# Altium integrated library Xilinx Spartan FPGA.IntLib: 465 symbols (part 2 of 3)
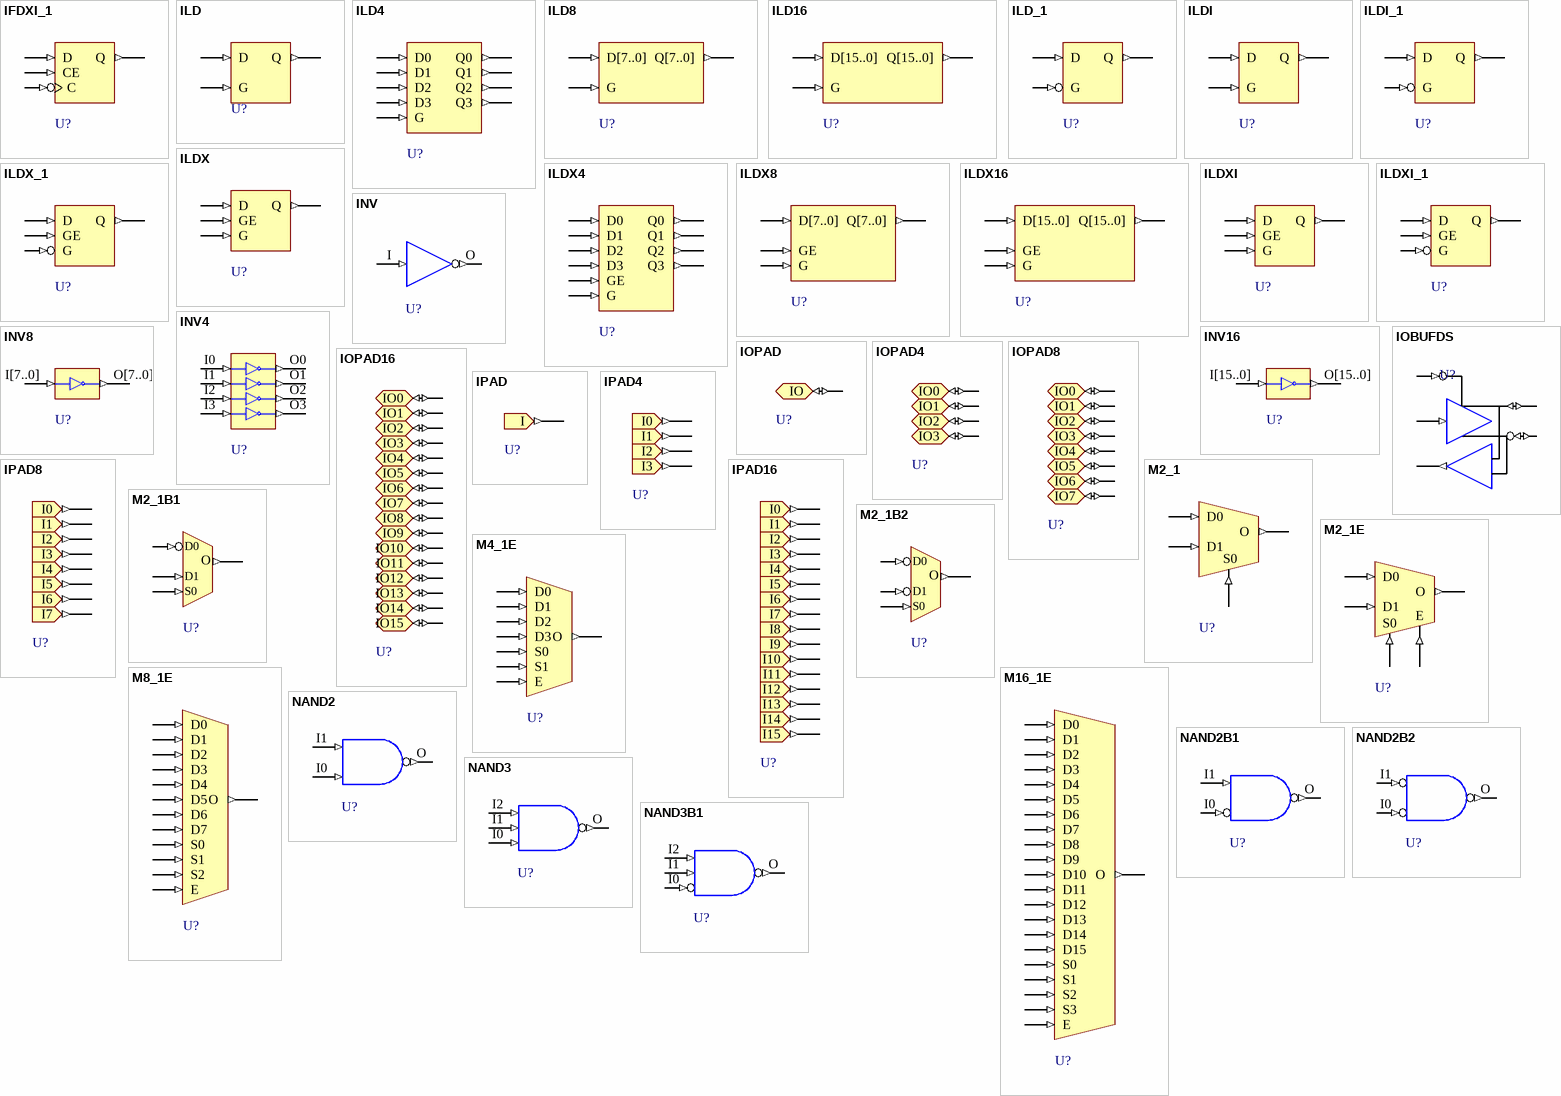
[diagram p12: symbols IFDXI_1 to NAND3B1]

## M16_1E
designator U?
16-to-1 Multiplexer with Enable; FPGAVendor: Xilinx; Published: 15-Sep-2003; Publisher: Altium Limited
pins: D0 (in), D1 (in), D2 (in), D3 (in), D4 (in), D5 (in), D6 (in), D7 (in), D8 (in), D9 (in), D10 (in), D11 (in), D12 (in), D13 (in), D14 (in), D15 (in), E (in), O (out), S0 (in), S1 (in), S2 (in), S3 (in)

## NAND2
designator U?
2-Input NAND Gate; FPGAVendor: Xilinx; Published: 15-Sep-2003; Publisher: Altium Limited
pins: I0 (in), I1 (in), O (out)

## NAND2B1
designator U?
2-Input NAND Gate with One Inverted Input; FPGAVendor: Xilinx; Published: 15-Sep-2003; Publisher: Altium Limited
pins: I0 (in), I1 (in), O (out)

## NAND2B2
designator U?
2-Input NAND Gate with Two Inverted Inputs; FPGAVendor: Xilinx; Published: 15-Sep-2003; Publisher: Altium Limited
pins: I0 (in), I1 (in), O (out)

## NAND3
designator U?
3-Input NAND Gate; FPGAVendor: Xilinx; Published: 15-Sep-2003; Publisher: Altium Limited
pins: I0 (in), I1 (in), I2 (in), O (out)

## NAND3B1
designator U?
3-Input NAND Gate with One Inverted Input; FPGAVendor: Xilinx; Published: 15-Sep-2003; Publisher: Altium Limited
pins: I0 (in), I1 (in), I2 (in), O (out)

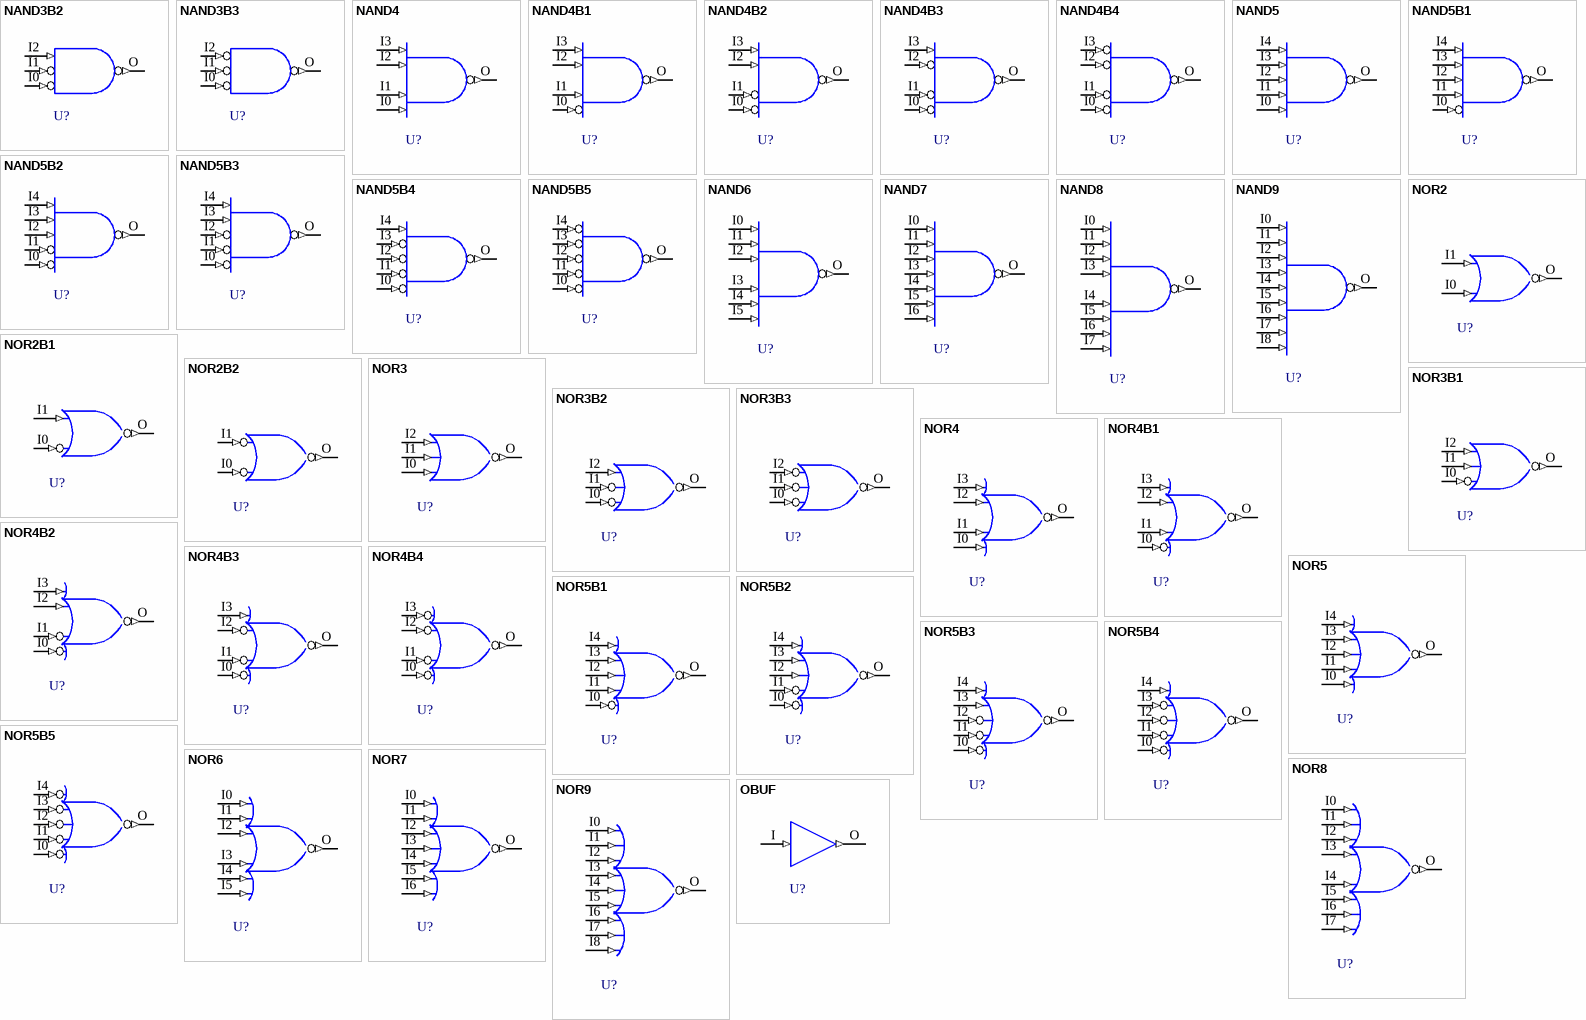
[diagram p6: symbols NAND3B2 to OBUF]

## NAND3B2
designator U?
3-Input NAND Gate with Two Inverted Inputs; FPGAVendor: Xilinx; Published: 15-Sep-2003; Publisher: Altium Limited
pins: I0 (in), I1 (in), I2 (in), O (out)

## NAND3B3
designator U?
3-Input NAND Gate with Three Inverted Inputs; FPGAVendor: Xilinx; Published: 15-Sep-2003; Publisher: Altium Limited
pins: I0 (in), I1 (in), I2 (in), O (out)

## NAND4
designator U?
4-Input NAND Gate; FPGAVendor: Xilinx; Published: 15-Sep-2003; Publisher: Altium Limited
pins: I0 (in), I1 (in), I2 (in), I3 (in), O (out)

## NAND4B1
designator U?
4-Input NAND Gate with One Inverted Input; FPGAVendor: Xilinx; Published: 15-Sep-2003; Publisher: Altium Limited
pins: I0 (in), I1 (in), I2 (in), I3 (in), O (out)

## NAND4B2
designator U?
4-Input NAND Gate with Two Inverted Inputs; FPGAVendor: Xilinx; Published: 15-Sep-2003; Publisher: Altium Limited
pins: I0 (in), I1 (in), I2 (in), I3 (in), O (out)

## NAND4B3
designator U?
4-Input NAND Gate with Three Inverted Inputs; FPGAVendor: Xilinx; Published: 15-Sep-2003; Publisher: Altium Limited
pins: I0 (in), I1 (in), I2 (in), I3 (in), O (out)

## NAND4B4
designator U?
4-Input NAND Gate with Four Inverted Inputs; FPGAVendor: Xilinx; Published: 15-Sep-2003; Publisher: Altium Limited
pins: I0 (in), I1 (in), I2 (in), I3 (in), O (out)

## NAND5
designator U?
5-Input NAND Gate; FPGAVendor: Xilinx; Published: 15-Sep-2003; Publisher: Altium Limited
pins: I0 (in), I1 (in), I2 (in), I3 (in), I4 (in), O (out)

## NAND5B1
designator U?
5-Input NAND Gate with One Inverted Input; FPGAVendor: Xilinx; Published: 15-Sep-2003; Publisher: Altium Limited
pins: I0 (in), I1 (in), I2 (in), I3 (in), I4 (in), O (out)

## NAND5B2
designator U?
5-Input NAND Gate with Two Inverted Inputs; FPGAVendor: Xilinx; Published: 15-Sep-2003; Publisher: Altium Limited
pins: I0 (in), I1 (in), I2 (in), I3 (in), I4 (in), O (out)

## NAND5B3
designator U?
5-Input NAND Gate with Three Inverted Inputs; FPGAVendor: Xilinx; Published: 15-Sep-2003; Publisher: Altium Limited
pins: I0 (in), I1 (in), I2 (in), I3 (in), I4 (in), O (out)

## NAND5B4
designator U?
5-Input NAND Gate with Four Inverted Inputs; FPGAVendor: Xilinx; Published: 15-Sep-2003; Publisher: Altium Limited
pins: I0 (in), I1 (in), I2 (in), I3 (in), I4 (in), O (out)

## NAND5B5
designator U?
5-Input NAND Gate with Five Inverted Inputs; FPGAVendor: Xilinx; Published: 15-Sep-2003; Publisher: Altium Limited
pins: I0 (in), I1 (in), I2 (in), I3 (in), I4 (in), O (out)

## NAND6
designator U?
6-Input NAND Gate; FPGAVendor: Xilinx; Published: 15-Sep-2003; Publisher: Altium Limited
pins: I0 (in), I1 (in), I2 (in), I3 (in), I4 (in), I5 (in), O (out)

## NAND7
designator U?
7-Input NAND Gate; FPGAVendor: Xilinx; Published: 15-Sep-2003; Publisher: Altium Limited
pins: I0 (in), I1 (in), I2 (in), I3 (in), I4 (in), I5 (in), I6 (in), O (out)

## NAND8
designator U?
8-Input NAND Gate; FPGAVendor: Xilinx; Published: 15-Sep-2003; Publisher: Altium Limited
pins: I0 (in), I1 (in), I2 (in), I3 (in), I4 (in), I5 (in), I6 (in), I7 (in), O (out)

## NAND9
designator U?
9-Input NAND Gate; FPGAVendor: Xilinx; Published: 15-Sep-2003; Publisher: Altium Limited
pins: I0 (in), I1 (in), I2 (in), I3 (in), I4 (in), I5 (in), I6 (in), I7 (in), I8 (in), O (out)

## NOR2
designator U?
2-Input NOR Gate; FPGAVendor: Xilinx; Published: 15-Sep-2003; Publisher: Altium Limited
pins: I0 (in), I1 (in), O (out)

## NOR2B1
designator U?
2-Input NOR Gate with One Inverted Input; FPGAVendor: Xilinx; Published: 15-Sep-2003; Publisher: Altium Limited
pins: I0 (in), I1 (in), O (out)

## NOR2B2
designator U?
2-Input NOR Gate with Two Inverted Inputs; FPGAVendor: Xilinx; Published: 15-Sep-2003; Publisher: Altium Limited
pins: I0 (in), I1 (in), O (out)

## NOR3
designator U?
3-Input NOR Gate; FPGAVendor: Xilinx; Published: 15-Sep-2003; Publisher: Altium Limited
pins: I0 (in), I1 (in), I2 (in), O (out)

## NOR3B1
designator U?
3-Input NOR Gate with One Inverted Input; FPGAVendor: Xilinx; Published: 15-Sep-2003; Publisher: Altium Limited
pins: I0 (in), I1 (in), I2 (in), O (out)

## NOR3B2
designator U?
3-Input NOR Gate with Two Inverted Inputs; FPGAVendor: Xilinx; Published: 15-Sep-2003; Publisher: Altium Limited
pins: I0 (in), I1 (in), I2 (in), O (out)

## NOR3B3
designator U?
3-Input NOR Gate with Three Inverted Inputs; FPGAVendor: Xilinx; Published: 15-Sep-2003; Publisher: Altium Limited
pins: I0 (in), I1 (in), I2 (in), O (out)

## NOR4
designator U?
4-Input NOR Gate; FPGAVendor: Xilinx; Published: 15-Sep-2003; Publisher: Altium Limited
pins: I0 (in), I1 (in), I2 (in), I3 (in), O (out)

## NOR4B1
designator U?
4-Input NOR Gate with One Inverted Input; FPGAVendor: Xilinx; Published: 15-Sep-2003; Publisher: Altium Limited
pins: I0 (in), I1 (in), I2 (in), I3 (in), O (out)

## NOR4B2
designator U?
4-Input NOR Gate with Two Inverted Inputs; FPGAVendor: Xilinx; Published: 15-Sep-2003; Publisher: Altium Limited
pins: I0 (in), I1 (in), I2 (in), I3 (in), O (out)

## NOR4B3
designator U?
4-Input NOR Gate with Three Inverted Inputs; FPGAVendor: Xilinx; Published: 15-Sep-2003; Publisher: Altium Limited
pins: I0 (in), I1 (in), I2 (in), I3 (in), O (out)

## NOR4B4
designator U?
4-Input NOR Gate with Four Inverted Inputs; FPGAVendor: Xilinx; Published: 15-Sep-2003; Publisher: Altium Limited
pins: I0 (in), I1 (in), I2 (in), I3 (in), O (out)

## NOR5
designator U?
5-Input NOR Gate; FPGAVendor: Xilinx; Published: 15-Sep-2003; Publisher: Altium Limited
pins: I0 (in), I1 (in), I2 (in), I3 (in), I4 (in), O (out)

## NOR5B1
designator U?
5-Input NOR Gate with One Inverted Input; FPGAVendor: Xilinx; Published: 15-Sep-2003; Publisher: Altium Limited
pins: I0 (in), I1 (in), I2 (in), I3 (in), I4 (in), O (out)

## NOR5B2
designator U?
5-Input NOR Gate with Two Inverted Inputs; FPGAVendor: Xilinx; Published: 15-Sep-2003; Publisher: Altium Limited
pins: I0 (in), I1 (in), I2 (in), I3 (in), I4 (in), O (out)

## NOR5B3
designator U?
5-Input NOR Gate with Three Inverted Inputs; FPGAVendor: Xilinx; Published: 15-Sep-2003; Publisher: Altium Limited
pins: I0 (in), I1 (in), I2 (in), I3 (in), I4 (in), O (out)

## NOR5B4
designator U?
5-Input NOR Gate with Four Inverted Inputs; FPGAVendor: Xilinx; Published: 15-Sep-2003; Publisher: Altium Limited
pins: I0 (in), I1 (in), I2 (in), I3 (in), I4 (in), O (out)

## NOR5B5
designator U?
5-Input NOR Gate with Five Inverted Inputs; FPGAVendor: Xilinx; Published: 15-Sep-2003; Publisher: Altium Limited
pins: I0 (in), I1 (in), I2 (in), I3 (in), I4 (in), O (out)

## NOR6
designator U?
6-Input NOR Gate; FPGAVendor: Xilinx; Published: 15-Sep-2003; Publisher: Altium Limited
pins: I0 (in), I1 (in), I2 (in), I3 (in), I4 (in), I5 (in), O (out)

## NOR7
designator U?
7-Input NOR Gate; FPGAVendor: Xilinx; Published: 15-Sep-2003; Publisher: Altium Limited
pins: I0 (in), I1 (in), I2 (in), I3 (in), I4 (in), I5 (in), I6 (in), O (out)

## NOR8
designator U?
8-Input NOR Gate; FPGAVendor: Xilinx; Published: 15-Sep-2003; Publisher: Altium Limited
pins: I0 (in), I1 (in), I2 (in), I3 (in), I4 (in), I5 (in), I6 (in), I7 (in), O (out)

## NOR9
designator U?
9-Input NOR Gate; FPGAVendor: Xilinx; Published: 15-Sep-2003; Publisher: Altium Limited
pins: I0 (in), I1 (in), I2 (in), I3 (in), I4 (in), I5 (in), I6 (in), I7 (in), I8 (in), O (out)

## OBUF
designator U?
Single-Output Buffer (using the LVTTL standard); FPGAVendor: Xilinx; Published: 15-Sep-2003; Publisher: Altium Limited
pins: I (in), O (out)

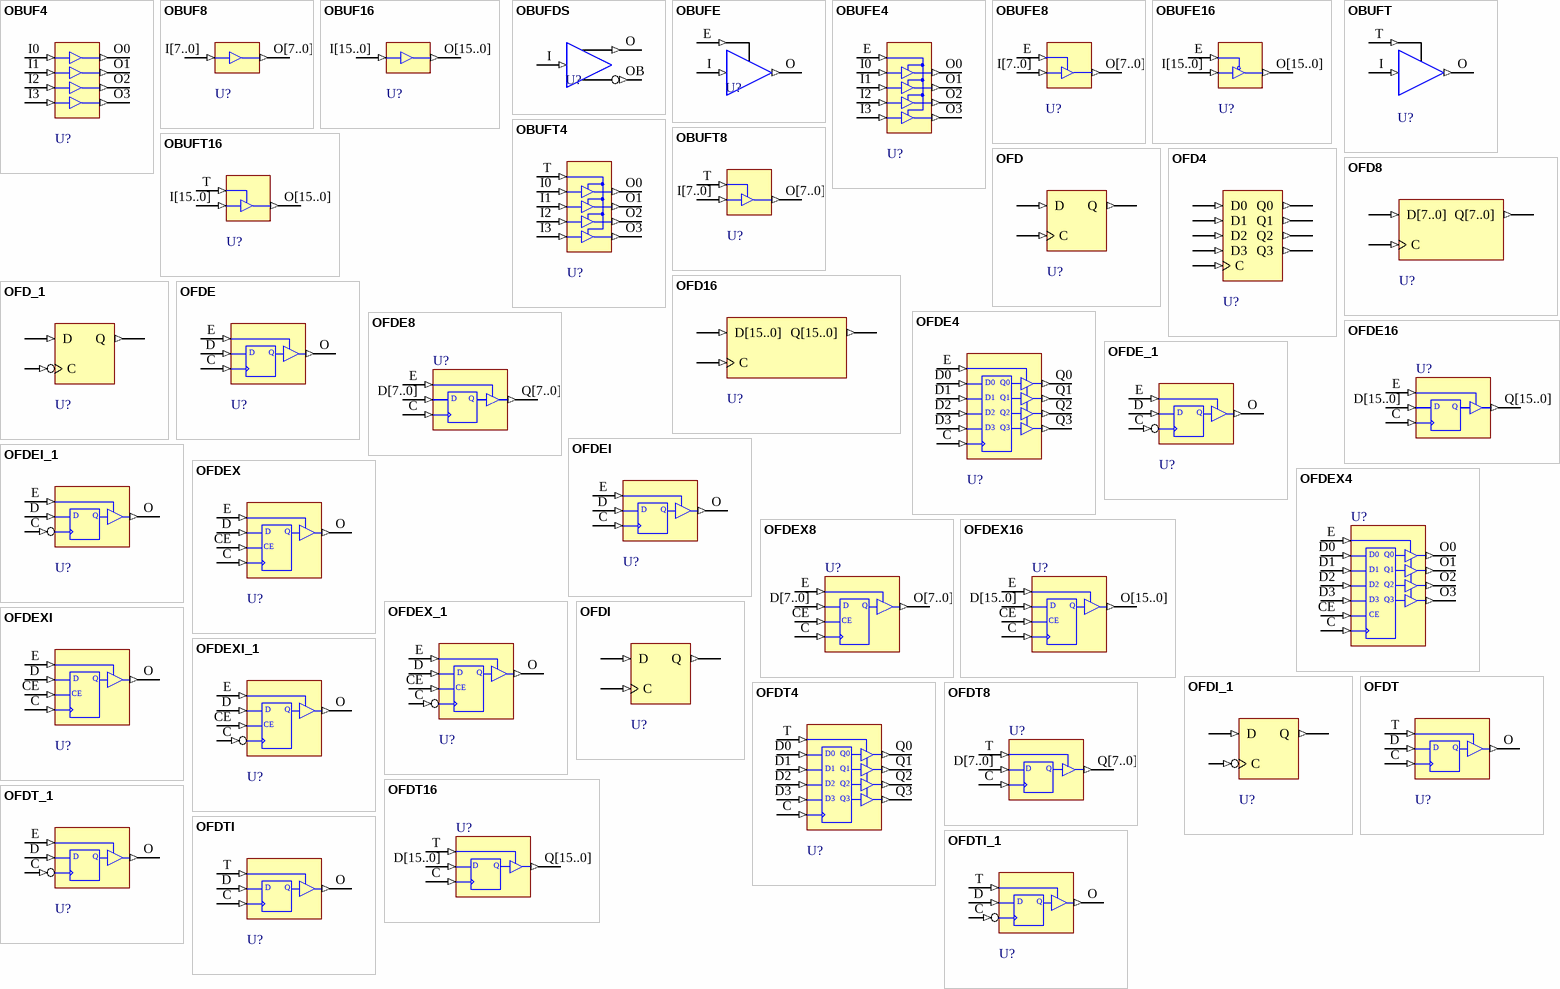
[diagram p7: symbols OBUF4 to OFDTI_1]

## OBUF4
designator U?
Multiple-Output Buffers (using the LVTTL standard); FPGAVendor: Xilinx; Published: 15-Sep-2003; Publisher: Altium Limited
pins: I0 (in), I1 (in), I2 (in), I3 (in), O0 (out), O1 (out), O2 (out), O3 (out)

## OBUF8
designator U?
Multiple-Output Buffers (using the LVTTL standard); FPGAVendor: Xilinx; Published: 15-Sep-2003; Publisher: Altium Limited
pins: I[7..0] (in), O[7..0] (out)

## OBUF16
designator U?
Multiple-Output Buffers (using the LVTTL standard); FPGAVendor: Xilinx; Published: 15-Sep-2003; Publisher: Altium Limited
pins: I[15..0] (in), O[15..0] (out)

## OBUFDS
designator U?
Differential Signaling Output Buffer with Selectable I/O Interface; FPGAVendor: Xilinx; Published: 20-May-2005; Publisher: Altium Limited; HelpURL: http://toolbox.xilinx.com/docsan/xilinx7/books/docs/s3esc/s3esc.pdf
pins: I (in), O (out), OB (out)

## OBUFE
designator U?
3-State Output Buffer with Active-High Output Enable; FPGAVendor: Xilinx; Published: 15-Sep-2003; Publisher: Altium Limited
pins: E (in), I (in), O (out)

## OBUFE4
designator U?
3-State Output Buffers with Active-High Output Enable; FPGAVendor: Xilinx; Published: 15-Sep-2003; Publisher: Altium Limited
pins: E (in), I0 (in), I1 (in), I2 (in), I3 (in), O0 (out), O1 (out), O2 (out), O3 (out)

## OBUFE8
designator U?
3-State Output Buffers with Active-High Output Enable; FPGAVendor: Xilinx; Published: 15-Sep-2003; Publisher: Altium Limited
pins: E (in), I[7..0] (in), O[7..0] (out)

## OBUFE16
designator U?
3-State Output Buffers with Active-High Output Enable; FPGAVendor: Xilinx; Published: 15-Sep-2003; Publisher: Altium Limited
pins: E (in), I[15..0] (in), O[15..0] (out)

## OBUFT
designator U?
Single 3-State Output Buffer with Active-Low Output Enable; FPGAVendor: Xilinx; Published: 15-Sep-2003; Publisher: Altium Limited
pins: I (in), O (out), T (in)

## OBUFT4
designator U?
Multiple 3-State Output Buffers with Active-Low Output Enable; FPGAVendor: Xilinx; Published: 15-Sep-2003; Publisher: Altium Limited
pins: I0 (in), I1 (in), I2 (in), I3 (in), O0 (out), O1 (out), O2 (out), O3 (out), T (in)

## OBUFT8
designator U?
Multiple 3-State Output Buffers with Active-Low Output Enable; FPGAVendor: Xilinx; Published: 15-Sep-2003; Publisher: Altium Limited
pins: I[7..0] (in), O[7..0] (out), T (in)

## OBUFT16
designator U?
Multiple 3-State Output Buffers with Active-Low Output Enable; FPGAVendor: Xilinx; Published: 15-Sep-2003; Publisher: Altium Limited
pins: I[15..0] (in), O[15..0] (out), T (in)

## OFD
designator U?
Single-Output D Flip-Flop; FPGAVendor: Xilinx; Published: 15-Sep-2003; Publisher: Altium Limited
pins: C (in), D (in), Q (out)

## OFD4
designator U?
Multiple-Output D Flip-Flop; FPGAVendor: Xilinx; Published: 15-Sep-2003; Publisher: Altium Limited
pins: C (in), D0 (in), D1 (in), D2 (in), D3 (in), Q0 (out), Q1 (out), Q2 (out), Q3 (out)

## OFD8
designator U?
Multiple-Output D Flip-Flop; FPGAVendor: Xilinx; Published: 15-Sep-2003; Publisher: Altium Limited
pins: C (in), D[7..0] (in), Q[7..0] (out)

## OFD16
designator U?
Multiple-Output D Flip-Flop; FPGAVendor: Xilinx; Published: 15-Sep-2003; Publisher: Altium Limited
pins: C (in), D[15..0] (in), Q[15..0] (out)

## OFD_1
designator U?
Output D Flip-Flop with Inverted Clock; FPGAVendor: Xilinx; Published: 15-Sep-2003; Publisher: Altium Limited
pins: C (in), D (in), Q (out)

## OFDE
designator U?
D Flip-Flop with Active-High Enable Output Buffer; FPGAVendor: Xilinx; Published: 15-Sep-2003; Publisher: Altium Limited
pins: C (in), D (in), E (in), O (out)
text: Q

## OFDE4
designator U?
D Flip-Flops with Active-High Enable Output Buffers; FPGAVendor: Xilinx; Published: 15-Sep-2003; Publisher: Altium Limited
pins: C (in), D0 (in), D1 (in), D2 (in), D3 (in), E (in), Q0 (out), Q1 (out), Q2 (out), Q3 (out)

## OFDE8
designator U?
D Flip-Flops with Active-High Enable Output Buffers; FPGAVendor: Xilinx; Published: 15-Sep-2003; Publisher: Altium Limited
pins: C (in), D[7..0] (in), E (in), Q[7..0] (out)
text: D; Q

## OFDE16
designator U?
D Flip-Flops with Active-High Enable Output Buffers; FPGAVendor: Xilinx; Published: 15-Sep-2003; Publisher: Altium Limited
pins: C (in), D[15..0] (in), E (in), Q[15..0] (out)
text: D; Q

## OFDE_1
designator U?
D Flip-Flop with Active-High Enable Output Buffer and Inverted Clock; FPGAVendor: Xilinx; Published: 15-Sep-2003; Publisher: Altium Limited
pins: C (in), D (in), E (in), O (out)
text: Q

## OFDEI
designator U?
D Flip-Flop with Active-High Enable Output Buffer (Asynchronous Preset); FPGAVendor: Xilinx; Published: 15-Sep-2003; Publisher: Altium Limited
pins: C (in), D (in), E (in), O (out)
text: Q

## OFDEI_1
designator U?
D Flip-Flop with Active-High Enable Output Buffer and Inverted Clock (Asynchronous Preset); FPGAVendor: Xilinx; Published: 15-Sep-2003; Publisher: Altium Limited
pins: C (in), D (in), E (in), O (out)
text: Q

## OFDEX
designator U?
D Flip-Flop with Active-High Enable Output Buffers and Clock Enable; FPGAVendor: Xilinx; Published: 15-Sep-2003; Publisher: Altium Limited
pins: C (in), CE (in), D (in), E (in), O (out)
text: Q

## OFDEX4
designator U?
D Flip-Flops with Active-High Enable Output Buffers and Clock Enable; FPGAVendor: Xilinx; Published: 15-Sep-2003; Publisher: Altium Limited
pins: C (in), CE (in), D0 (in), D1 (in), D2 (in), D3 (in), E (in), O0 (out), O1 (out), O2 (out), O3 (out)
text: Q0; Q1; Q2; Q3

## OFDEX8
designator U?
D Flip-Flops with Active-High Enable Output Buffers and Clock Enable; FPGAVendor: Xilinx; Published: 15-Sep-2003; Publisher: Altium Limited
pins: C (in), CE (in), D[7..0] (in), E (in), O[7..0] (out)
text: D; Q

## OFDEX16
designator U?
D Flip-Flops with Active-High Enable Output Buffers and Clock Enable; FPGAVendor: Xilinx; Published: 15-Sep-2003; Publisher: Altium Limited
pins: C (in), CE (in), D[15..0] (in), E (in), O[15..0] (out)
text: D; Q

## OFDEX_1
designator U?
D Flip-Flop with Active-High Enable Output Buffer, Inverted Clock, and Clock Enable; FPGAVendor: Xilinx; Published: 15-Sep-2003; Publisher: Altium Limited
pins: C (in), CE (in), D (in), E (in), O (out)
text: Q

## OFDEXI
designator U?
D Flip-Flop with Active-High Enable Output Buffer and Clock Enable (Asynchronous Preset); FPGAVendor: Xilinx; Published: 15-Sep-2003; Publisher: Altium Limited
pins: C (in), CE (in), D (in), E (in), O (out)
text: Q

## OFDEXI_1
designator U?
D Flip-Flop with Active-High Enable Output Buffer, Inverted Clock and Clock Enable (Asynchronous Preset); FPGAVendor: Xilinx; Published: 15-Sep-2003; Publisher: Altium Limited
pins: C (in), CE (in), D (in), E (in), O (out)
text: Q

## OFDI
designator U?
Output D Flip-Flop (Asynchronous Preset); FPGAVendor: Xilinx; Published: 15-Sep-2003; Publisher: Altium Limited
pins: C (in), D (in), Q (out)

## OFDI_1
designator U?
Output D Flip-Flop with Inverted Clock (Asynchronous Preset); FPGAVendor: Xilinx; Published: 15-Sep-2003; Publisher: Altium Limited
pins: C (in), D (in), Q (out)

## OFDT
designator U?
Single D Flip-Flop with Active-Low 3-State Output Enable Buffer; FPGAVendor: Xilinx; Published: 15-Sep-2003; Publisher: Altium Limited
pins: C (in), D (in), O (out), T (in)
text: Q

## OFDT4
designator U?
Multiple D Flip-Flops with Active-Low 3-State Output Enable Buffers; FPGAVendor: Xilinx; Published: 15-Sep-2003; Publisher: Altium Limited
pins: C (in), D0 (in), D1 (in), D2 (in), D3 (in), Q0 (out), Q1 (out), Q2 (out), Q3 (out), T (in)

## OFDT8
designator U?
Multiple D Flip-Flops with Active-Low 3-State Output Enable Buffers; FPGAVendor: Xilinx; Published: 15-Sep-2003; Publisher: Altium Limited
pins: C (in), D[7..0] (in), Q[7..0] (out), T (in)
text: D; Q

## OFDT16
designator U?
Multiple D Flip-Flops with Active-Low 3-State Output Enable Buffers; FPGAVendor: Xilinx; Published: 15-Sep-2003; Publisher: Altium Limited
pins: C (in), D[15..0] (in), Q[15..0] (out), T (in)
text: D; Q

## OFDT_1
designator U?
D Flip-Flop with Active-Low 3-State Output Buffer and Inverted Clock; FPGAVendor: Xilinx; Published: 15-Sep-2003; Publisher: Altium Limited
pins: C (in), D (in), E (in), O (out)
text: Q

## OFDTI
designator U?
D Flip-Flop with Active-Low 3-State Output Buffer (Asynchronous Preset); FPGAVendor: Xilinx; Published: 15-Sep-2003; Publisher: Altium Limited
pins: C (in), D (in), O (out), T (in)
text: Q

## OFDTI_1
designator U?
D Flip-Flop with Active-Low 3-State Output Buffer and Inverted Clock (Asynchronous Preset); FPGAVendor: Xilinx; Published: 15-Sep-2003; Publisher: Altium Limited
pins: C (in), D (in), O (out), T (in)
text: Q

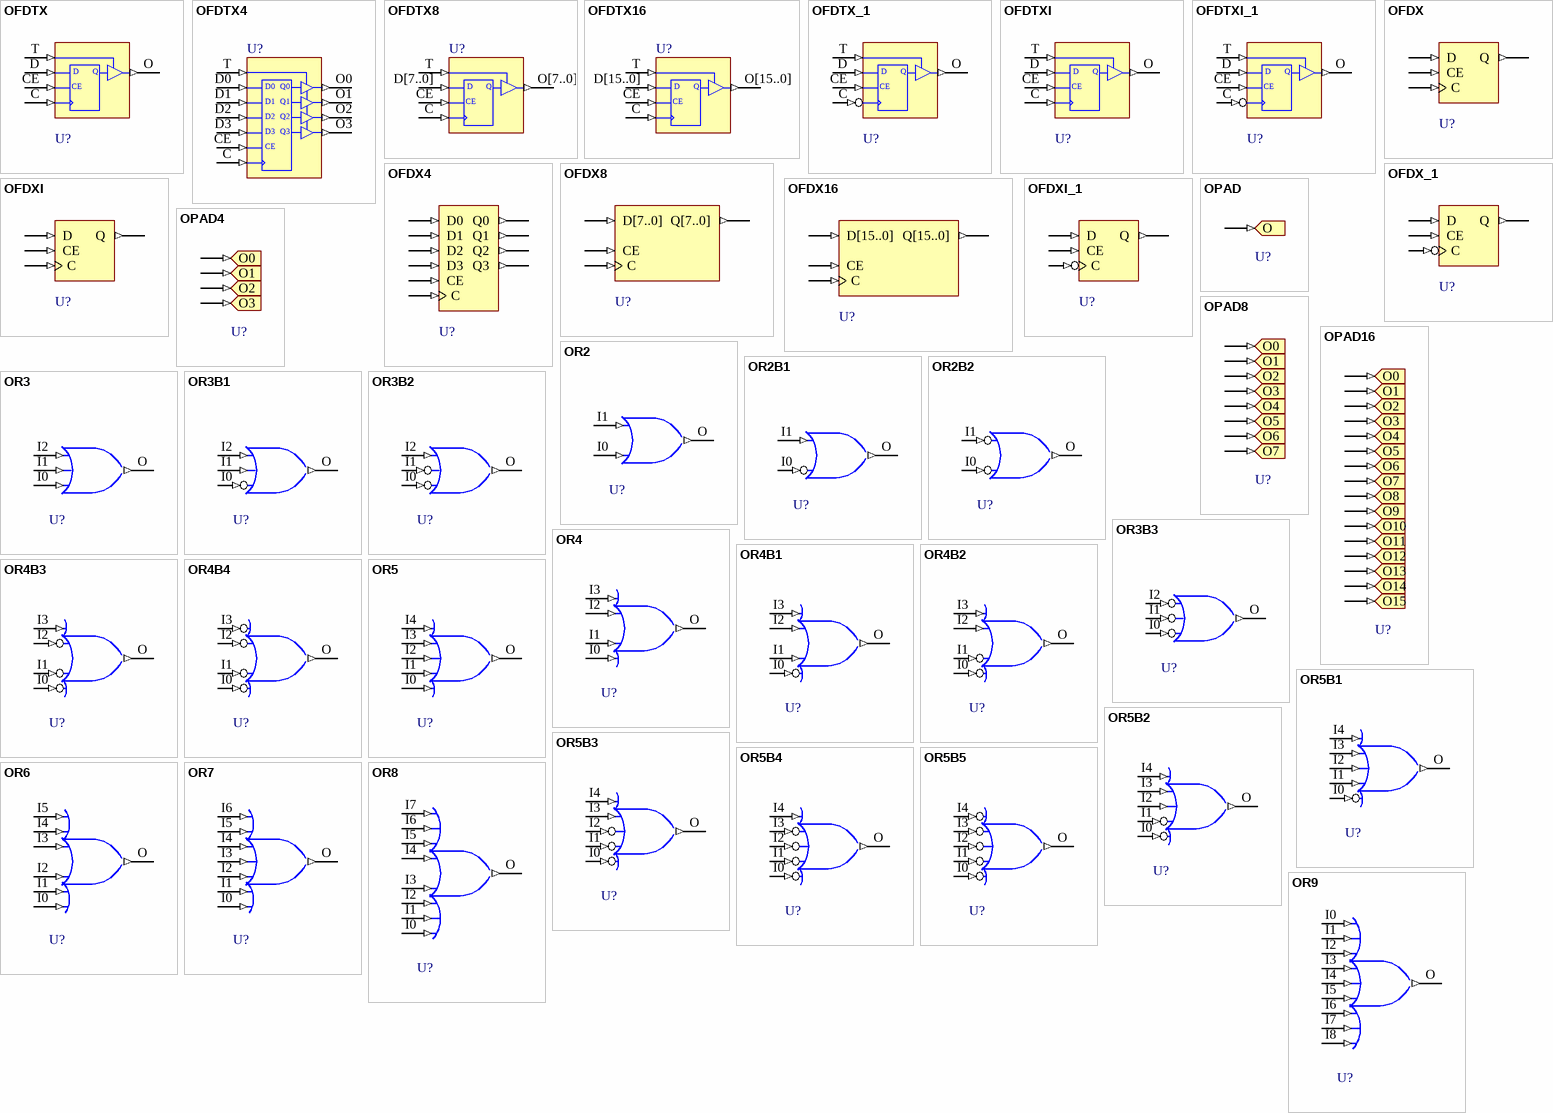
[diagram p8: symbols OFDTX to OR9]

## OFDTX
designator U?
Single D Flip-Flop with Active-Low 3-State Output Buffer and Clock Enable; FPGAVendor: Xilinx; Published: 15-Sep-2003; Publisher: Altium Limited
pins: C (in), CE (in), D (in), O (out), T (in)
text: Q

## OFDTX4
designator U?
Multiple D Flip-Flops with Active-Low 3-State Output Buffers and Clock Enable; FPGAVendor: Xilinx; Published: 15-Sep-2003; Publisher: Altium Limited
pins: C (in), CE (in), D0 (in), D1 (in), D2 (in), D3 (in), O0 (out), O1 (out), O2 (out), O3 (out), T (in)
text: Q0; Q1; Q2; Q3

## OFDTX8
designator U?
Multiple D Flip-Flops with Active-Low 3-State Output Buffers and Clock Enable; FPGAVendor: Xilinx; Published: 15-Sep-2003; Publisher: Altium Limited
pins: C (in), CE (in), D[7..0] (in), O[7..0] (out), T (in)
text: D; Q

## OFDTX16
designator U?
Multiple D Flip-Flops with Active-Low 3-State Output Buffers and Clock Enable; FPGAVendor: Xilinx; Published: 15-Sep-2003; Publisher: Altium Limited
pins: C (in), CE (in), D[15..0] (in), O[15..0] (out), T (in)
text: D; Q

## OFDTX_1
designator U?
D Flip-Flop with Active-Low 3-State Output Buffer, Inverted Clock, and Clock Enable; FPGAVendor: Xilinx; Published: 15-Sep-2003; Publisher: Altium Limited
pins: C (in), CE (in), D (in), O (out), T (in)
text: Q

## OFDTXI
designator U?
D Flip-Flop with Active-Low 3-State Output Buffer and Clock Enable (Asynchronous Preset); FPGAVendor: Xilinx; Published: 15-Sep-2003; Publisher: Altium Limited
pins: C (in), CE (in), D (in), O (out), T (in)
text: Q

## OFDTXI_1
designator U?
D Flip-Flop with Active-Low 3-State Output Buffer, Inverted Clock, and Clock Enable (Asynchronous Preset); FPGAVendor: Xilinx; Published: 15-Sep-2003; Publisher: Altium Limited
pins: C (in), CE (in), D (in), O (out), T (in)
text: Q

## OFDX
designator U?
Single-Output D Flip-Flop with Clock Enable; FPGAVendor: Xilinx; Published: 15-Sep-2003; Publisher: Altium Limited
pins: C (in), CE (in), D (in), Q (out)

## OFDX4
designator U?
Multiple-Output D Flip-Flops with Clock Enable; FPGAVendor: Xilinx; Published: 15-Sep-2003; Publisher: Altium Limited
pins: C (in), CE (in), D0 (in), D1 (in), D2 (in), D3 (in), Q0 (out), Q1 (out), Q2 (out), Q3 (out)

## OFDX8
designator U?
Multiple-Output D Flip-Flops with Clock Enable; FPGAVendor: Xilinx; Published: 15-Sep-2003; Publisher: Altium Limited
pins: C (in), CE (in), D[7..0] (in), Q[7..0] (out)

## OFDX16
designator U?
Multiple-Output D Flip-Flops with Clock Enable; FPGAVendor: Xilinx; Published: 15-Sep-2003; Publisher: Altium Limited
pins: C (in), CE (in), D[15..0] (in), Q[15..0] (out)

## OFDX_1
designator U?
Output D Flip-Flop with Inverted Clock and Clock Enable; FPGAVendor: Xilinx; Published: 15-Sep-2003; Publisher: Altium Limited
pins: C (in), CE (in), D (in), Q (out)

## OFDXI
designator U?
Output D Flip-Flop with Clock Enable (Asynchronous Preset); FPGAVendor: Xilinx; Published: 15-Sep-2003; Publisher: Altium Limited
pins: C (in), CE (in), D (in), Q (out)

## OFDXI_1
designator U?
Output D Flip-Flop with Inverted Clock and Clock Enable (Asynchronous Preset); FPGAVendor: Xilinx; Published: 15-Sep-2003; Publisher: Altium Limited
pins: C (in), CE (in), D (in), Q (out)

## OPAD
designator U?
Single-Output Pad; FPGAVendor: Xilinx; Published: 15-Sep-2003; Publisher: Altium Limited
pins: O (in)

## OPAD4
designator U?
Multiple-Output Pads; FPGAVendor: Xilinx; Published: 15-Sep-2003; Publisher: Altium Limited
pins: O0 (in), O1 (in), O2 (in), O3 (in)

## OPAD8
designator U?
Multiple-Output Pads; FPGAVendor: Xilinx; Published: 15-Sep-2003; Publisher: Altium Limited
pins: O0 (in), O1 (in), O2 (in), O3 (in), O4 (in), O5 (in), O6 (in), O7 (in)

## OPAD16
designator U?
Multiple-Output Pads; FPGAVendor: Xilinx; Published: 15-Sep-2003; Publisher: Altium Limited
pins: O0 (in), O1 (in), O2 (in), O3 (in), O4 (in), O5 (in), O6 (in), O7 (in), O8 (in), O9 (in), O10 (in), O11 (in), O12 (in), O13 (in), O14 (in), O15 (in)

## OR2
designator U?
2-Input OR Gate; FPGAVendor: Xilinx; Published: 15-Sep-2003; Publisher: Altium Limited
pins: I0 (in), I1 (in), O (out)

## OR2B1
designator U?
2-Input OR Gate with One Inverted Input; FPGAVendor: Xilinx; Published: 15-Sep-2003; Publisher: Altium Limited
pins: I0 (in), I1 (in), O (out)

## OR2B2
designator U?
2-Input OR Gate with Two Inverted Inputs; FPGAVendor: Xilinx; Published: 15-Sep-2003; Publisher: Altium Limited
pins: I0 (in), I1 (in), O (out)

## OR3
designator U?
3-Input OR Gate; FPGAVendor: Xilinx; Published: 15-Sep-2003; Publisher: Altium Limited
pins: I0 (in), I1 (in), I2 (in), O (out)

## OR3B1
designator U?
3-Input OR Gate with One Inverted Input; FPGAVendor: Xilinx; Published: 15-Sep-2003; Publisher: Altium Limited
pins: I0 (in), I1 (in), I2 (in), O (out)

## OR3B2
designator U?
3-Input OR Gate with Two Inverted Inputs; FPGAVendor: Xilinx; Published: 15-Sep-2003; Publisher: Altium Limited
pins: I0 (in), I1 (in), I2 (in), O (out)

## OR3B3
designator U?
3-Input OR Gate with Three Inverted Inputs; FPGAVendor: Xilinx; Published: 15-Sep-2003; Publisher: Altium Limited
pins: I0 (in), I1 (in), I2 (in), O (out)

## OR4
designator U?
4-Input OR Gate; FPGAVendor: Xilinx; Published: 15-Sep-2003; Publisher: Altium Limited
pins: I0 (in), I1 (in), I2 (in), I3 (in), O (out)

## OR4B1
designator U?
4-Input OR Gate with One Inverted Input; FPGAVendor: Xilinx; Published: 15-Sep-2003; Publisher: Altium Limited
pins: I0 (in), I1 (in), I2 (in), I3 (in), O (out)

## OR4B2
designator U?
4-Input OR Gate with Two Inverted Inputs; FPGAVendor: Xilinx; Published: 15-Sep-2003; Publisher: Altium Limited
pins: I0 (in), I1 (in), I2 (in), I3 (in), O (out)

## OR4B3
designator U?
4-Input OR Gate with Three Inverted Inputs; FPGAVendor: Xilinx; Published: 15-Sep-2003; Publisher: Altium Limited
pins: I0 (in), I1 (in), I2 (in), I3 (in), O (out)

## OR4B4
designator U?
4-Input OR Gate with Four Inverted Inputs; FPGAVendor: Xilinx; Published: 15-Sep-2003; Publisher: Altium Limited
pins: I0 (in), I1 (in), I2 (in), I3 (in), O (out)

## OR5
designator U?
5-Input OR Gate; FPGAVendor: Xilinx; Published: 15-Sep-2003; Publisher: Altium Limited
pins: I0 (in), I1 (in), I2 (in), I3 (in), I4 (in), O (out)

## OR5B1
designator U?
5-Input OR Gate with One Inverted Input; FPGAVendor: Xilinx; Published: 15-Sep-2003; Publisher: Altium Limited
pins: I0 (in), I1 (in), I2 (in), I3 (in), I4 (in), O (out)

## OR5B2
designator U?
5-Input OR Gate with Two Inverted Inputs; FPGAVendor: Xilinx; Published: 15-Sep-2003; Publisher: Altium Limited
pins: I0 (in), I1 (in), I2 (in), I3 (in), I4 (in), O (out)

## OR5B3
designator U?
5-Input OR Gate with Three Inverted Inputs; FPGAVendor: Xilinx; Published: 15-Sep-2003; Publisher: Altium Limited
pins: I0 (in), I1 (in), I2 (in), I3 (in), I4 (in), O (out)

## OR5B4
designator U?
5-Input OR Gate with Four Inverted Inputs; FPGAVendor: Xilinx; Published: 15-Sep-2003; Publisher: Altium Limited
pins: I0 (in), I1 (in), I2 (in), I3 (in), I4 (in), O (out)

## OR5B5
designator U?
5-Input OR Gate with Five Inverted Inputs; FPGAVendor: Xilinx; Published: 15-Sep-2003; Publisher: Altium Limited
pins: I0 (in), I1 (in), I2 (in), I3 (in), I4 (in), O (out)

## OR6
designator U?
6-Input OR Gate; FPGAVendor: Xilinx; Published: 15-Sep-2003; Publisher: Altium Limited
pins: I0 (in), I1 (in), I2 (in), I3 (in), I4 (in), I5 (in), O (out)

## OR7
designator U?
7-Input OR Gate; FPGAVendor: Xilinx; Published: 15-Sep-2003; Publisher: Altium Limited
pins: I0 (in), I1 (in), I2 (in), I3 (in), I4 (in), I5 (in), I6 (in), O (out)

## OR8
designator U?
8-Input OR Gate; FPGAVendor: Xilinx; Published: 15-Sep-2003; Publisher: Altium Limited
pins: I0 (in), I1 (in), I2 (in), I3 (in), I4 (in), I5 (in), I6 (in), I7 (in), O (out)

## OR9
designator U?
9-Input OR Gate; FPGAVendor: Xilinx; Published: 15-Sep-2003; Publisher: Altium Limited
pins: I0 (in), I1 (in), I2 (in), I3 (in), I4 (in), I5 (in), I6 (in), I7 (in), I8 (in), O (out)

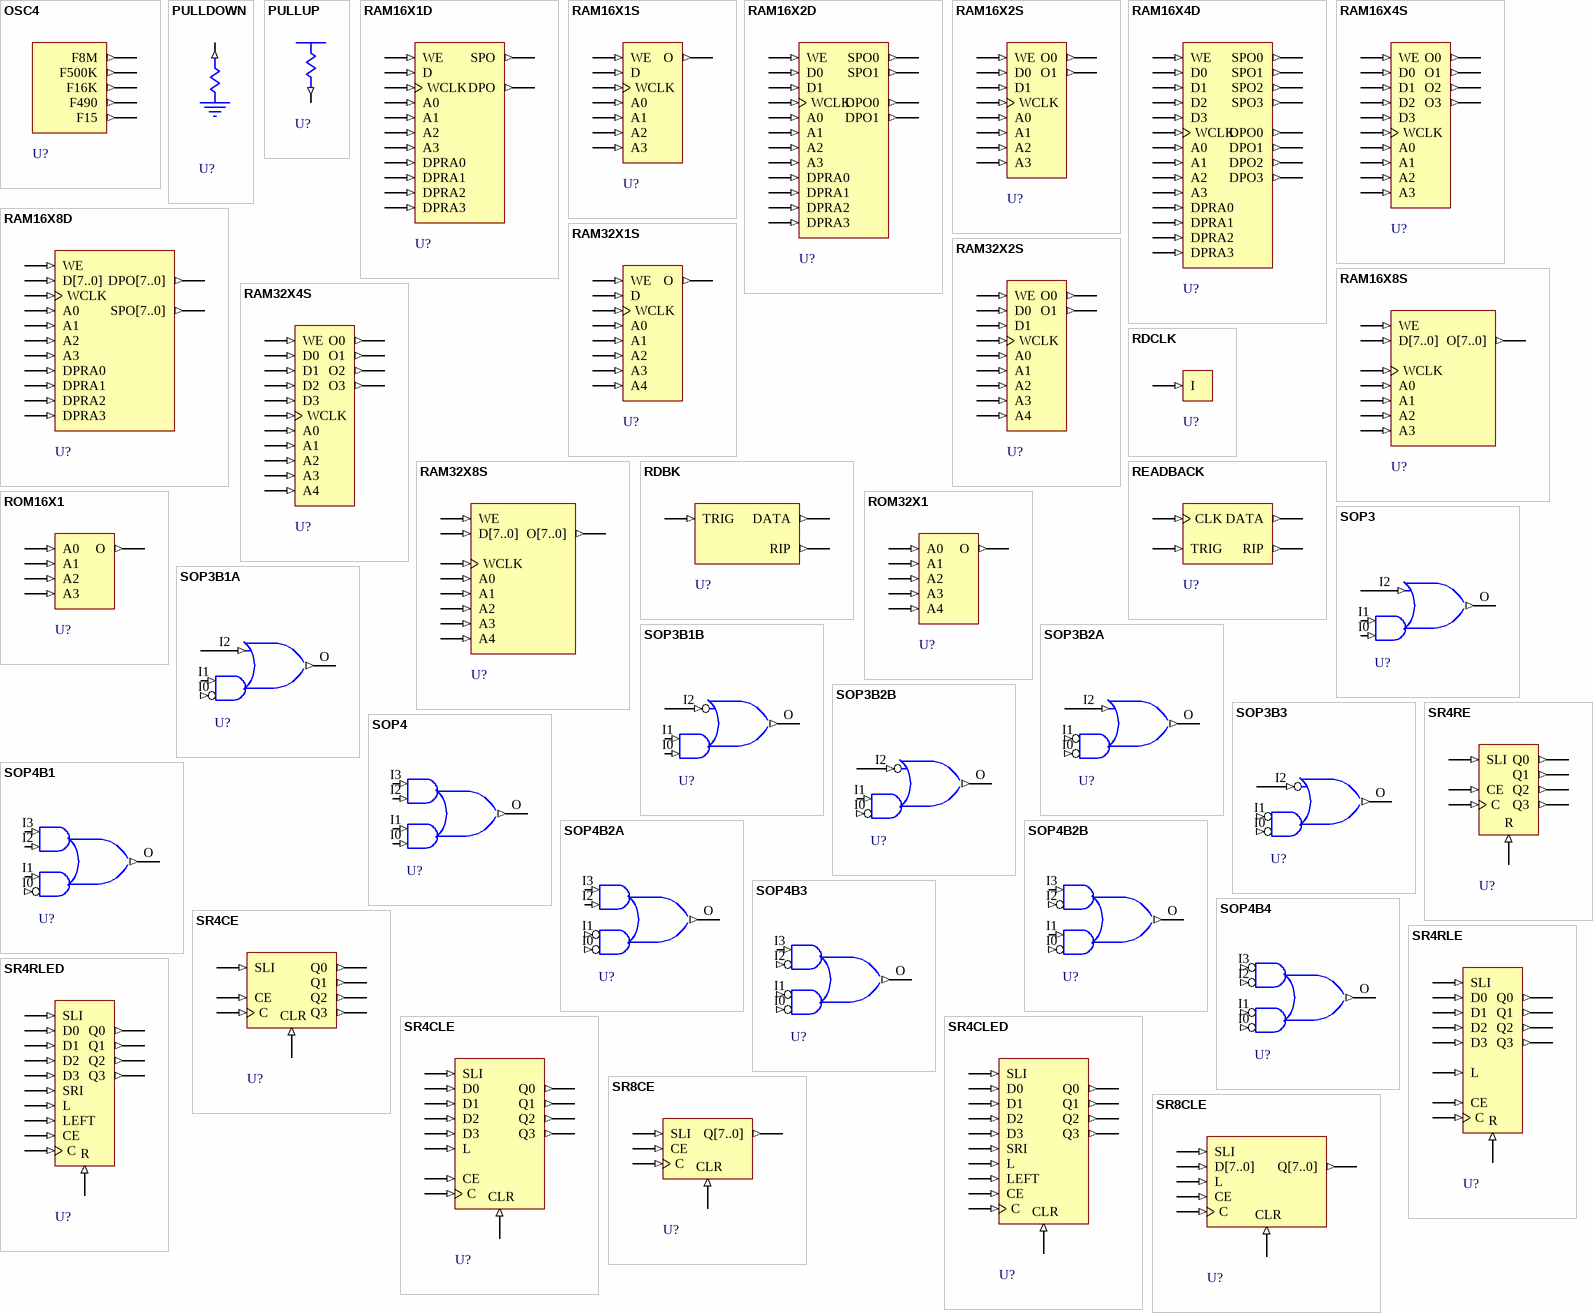
[diagram p9: symbols OSC4 to SR8CLE]

## OSC4
designator U?
Internal 5-Frequency Clock-Signal Generator; FPGAVendor: Xilinx; Published: 15-Sep-2003; Publisher: Altium Limited
pins: F8M (out), F15 (out), F16K (out), F490 (out), F500K (out)

## PULLDOWN
designator U?
Resistor to GND for Input Pads; FPGAVendor: Xilinx; Published: 15-Sep-2003; Publisher: Altium Limited
pins: O (out)

## PULLUP
designator U?
Resistor to VCC for Input PADs, Open-Drain, and 3-State Outputs; FPGAVendor: Xilinx; Published: 15-Sep-2003; Publisher: Altium Limited
pins: O (out)

## RAM16X1D
designator U?
16-Deep by 1-Wide Static Dual Port Synchronous RAM; FPGAVendor: Xilinx; Published: 15-Sep-2003; Publisher: Altium Limited
pins: A0 (in), A1 (in), A2 (in), A3 (in), D (in), DPO (out), DPRA0 (in), DPRA1 (in), DPRA2 (in), DPRA3 (in), SPO (out), WCLK (in), WE (in)

## RAM16X1S
designator U?
16-Deep by 1-Wide Static Synchronous RAM; FPGAVendor: Xilinx; Published: 15-Sep-2003; Publisher: Altium Limited
pins: A0 (in), A1 (in), A2 (in), A3 (in), D (in), O (out), WCLK (in), WE (in)

## RAM16X2D
designator U?
16-Deep by 2-Wide Static Dual Port Synchronous RAM; FPGAVendor: Xilinx; Published: 15-Sep-2003; Publisher: Altium Limited
pins: A0 (in), A1 (in), A2 (in), A3 (in), D0 (in), D1 (in), DPO0 (out), DPO1 (out), DPRA0 (in), DPRA1 (in), DPRA2 (in), DPRA3 (in), SPO0 (out), SPO1 (out), WCLK (in), WE (in)

## RAM16X2S
designator U?
16-Deep by 2-Wide Static Synchronous RAM; FPGAVendor: Xilinx; Published: 15-Sep-2003; Publisher: Altium Limited
pins: A0 (in), A1 (in), A2 (in), A3 (in), D0 (in), D1 (in), O0 (out), O1 (out), WCLK (in), WE (in)

## RAM16X4D
designator U?
16-Deep by 4-Wide Static Dual Port Synchronous RAM; FPGAVendor: Xilinx; Published: 15-Sep-2003; Publisher: Altium Limited
pins: A0 (in), A1 (in), A2 (in), A3 (in), D0 (in), D1 (in), D2 (in), D3 (in), DPO0 (out), DPO1 (out), DPO2 (out), DPO3 (out), DPRA0 (in), DPRA1 (in), DPRA2 (in), DPRA3 (in), SPO0 (out), SPO1 (out), SPO2 (out), SPO3 (out), WCLK (in), WE (in)

## RAM16X4S
designator U?
16-Deep by 4-Wide Static Synchronous RAM; FPGAVendor: Xilinx; Published: 15-Sep-2003; Publisher: Altium Limited
pins: A0 (in), A1 (in), A2 (in), A3 (in), D0 (in), D1 (in), D2 (in), D3 (in), O0 (out), O1 (out), O2 (out), O3 (out), WCLK (in), WE (in)

## RAM16X8D
designator U?
16-Deep by 8-Wide Static Dual Port Synchronous RAM; FPGAVendor: Xilinx; Published: 15-Sep-2003; Publisher: Altium Limited
pins: A0 (in), A1 (in), A2 (in), A3 (in), D[7..0] (in), DPO[7..0] (out), DPRA0 (in), DPRA1 (in), DPRA2 (in), DPRA3 (in), SPO[7..0] (out), WCLK (in), WE (in)

## RAM16X8S
designator U?
16-Deep by 8-Wide Static Synchronous RAM; FPGAVendor: Xilinx; Published: 15-Sep-2003; Publisher: Altium Limited
pins: A0 (in), A1 (in), A2 (in), A3 (in), D[7..0] (in), O[7..0] (out), WCLK (in), WE (in)

## RAM32X1S
designator U?
32-Deep by 1-Wide Static Synchronous RAM; FPGAVendor: Xilinx; Published: 15-Sep-2003; Publisher: Altium Limited
pins: A0 (in), A1 (in), A2 (in), A3 (in), A4 (in), D (in), O (out), WCLK (in), WE (in)

## RAM32X2S
designator U?
32-Deep by 2-Wide Static Synchronous RAM; FPGAVendor: Xilinx; Published: 15-Sep-2003; Publisher: Altium Limited
pins: A0 (in), A1 (in), A2 (in), A3 (in), A4 (in), D0 (in), D1 (in), O0 (out), O1 (out), WCLK (in), WE (in)

## RAM32X4S
designator U?
32-Deep by 4-Wide Static Synchronous RAM; FPGAVendor: Xilinx; Published: 15-Sep-2003; Publisher: Altium Limited
pins: A0 (in), A1 (in), A2 (in), A3 (in), A4 (in), D0 (in), D1 (in), D2 (in), D3 (in), O0 (out), O1 (out), O2 (out), O3 (out), WCLK (in), WE (in)

## RAM32X8S
designator U?
32-Deep by 8-Wide Static Synchronous RAM; FPGAVendor: Xilinx; Published: 15-Sep-2003; Publisher: Altium Limited
pins: A0 (in), A1 (in), A2 (in), A3 (in), A4 (in), D[7..0] (in), O[7..0] (out), WCLK (in), WE (in)

## RDBK
designator U?
Read Back; FPGAVendor: Xilinx; Published: 15-Sep-2003; Publisher: Altium Limited
pins: DATA (out), RIP (out), TRIG (in)

## RDCLK
designator U?
Read Clk; FPGAVendor: Xilinx; Published: 15-Sep-2003; Publisher: Altium Limited
pins: I (in)

## READBACK
designator U?
FPGA Bitstream Readback Controller; FPGAVendor: Xilinx; Published: 15-Sep-2003; Publisher: Altium Limited
pins: CLK (in), DATA (out), RIP (out), TRIG (in)

## ROM16X1
designator U?
16-Deep by 1-Wide ROM; FPGAVendor: Xilinx; Published: 15-Sep-2003; Publisher: Altium Limited
pins: A0 (in), A1 (in), A2 (in), A3 (in), O (out)

## ROM32X1
designator U?
32-Deep by 1-Wide ROM; FPGAVendor: Xilinx; Published: 15-Sep-2003; Publisher: Altium Limited
pins: A0 (in), A1 (in), A2 (in), A3 (in), A4 (in), O (out)

## SOP3
designator U?
3-Input Sum-of-Products; FPGAVendor: Xilinx; Published: 15-Sep-2003; Publisher: Altium Limited
pins: I0 (in), I1 (in), I2 (in), O (out)

## SOP3B1A
designator U?
3-Input Sum-of-Products with One AND Input Inverted; FPGAVendor: Xilinx; Published: 15-Sep-2003; Publisher: Altium Limited
pins: I0 (in), I1 (in), I2 (in), O (out)

## SOP3B1B
designator U?
3-Input Sum-of-Products with One OR Input Inverted; FPGAVendor: Xilinx; Published: 15-Sep-2003; Publisher: Altium Limited
pins: I0 (in), I1 (in), I2 (in), O (out)

## SOP3B2A
designator U?
3-Input Sum-of-Products with Two AND Inputs Inverted; FPGAVendor: Xilinx; Published: 15-Sep-2003; Publisher: Altium Limited
pins: I0 (in), I1 (in), I2 (in), O (out)

## SOP3B2B
designator U?
3-Input Sum-of-Products with One OR and One AND Input Inverted; FPGAVendor: Xilinx; Published: 15-Sep-2003; Publisher: Altium Limited
pins: I0 (in), I1 (in), I2 (in), O (out)

## SOP3B3
designator U?
3-Input Sum-of-Products with All Inputs Inverted; FPGAVendor: Xilinx; Published: 15-Sep-2003; Publisher: Altium Limited
pins: I0 (in), I1 (in), I2 (in), O (out)

## SOP4
designator U?
4-Input Sum-of-Products; FPGAVendor: Xilinx; Published: 15-Sep-2003; Publisher: Altium Limited
pins: I0 (in), I1 (in), I2 (in), I3 (in), O (out)

## SOP4B1
designator U?
4-Input Sum-of-Products with One AND Input Inverted; FPGAVendor: Xilinx; Published: 15-Sep-2003; Publisher: Altium Limited
pins: I0 (in), I1 (in), I2 (in), I3 (in), O (out)

## SOP4B2A
designator U?
4-Input Sum-of-Products with Both Inputs on One AND Gate Inverted; FPGAVendor: Xilinx; Published: 15-Sep-2003; Publisher: Altium Limited
pins: I0 (in), I1 (in), I2 (in), I3 (in), O (out)

## SOP4B2B
designator U?
4-Input Sum-of-Products with One AND Input on Each AND Gate Inverted; FPGAVendor: Xilinx; Published: 15-Sep-2003; Publisher: Altium Limited
pins: I0 (in), I1 (in), I2 (in), I3 (in), O (out)

## SOP4B3
designator U?
4-Input Sum-of-Products with Three Inputs Inverted; FPGAVendor: Xilinx; Published: 15-Sep-2003; Publisher: Altium Limited
pins: I0 (in), I1 (in), I2 (in), I3 (in), O (out)

## SOP4B4
designator U?
4-Input Sum-of-Products with All Inputs Inverted; FPGAVendor: Xilinx; Published: 15-Sep-2003; Publisher: Altium Limited
pins: I0 (in), I1 (in), I2 (in), I3 (in), O (out)

## SR4CE
designator U?
4-Bit Serial-In Parallel-Out Shift Register with Clock Enable and Asynchronous Clear; FPGAVendor: Xilinx; Published: 15-Sep-2003; Publisher: Altium Limited
pins: C (in), CE (in), CLR (in), Q0 (out), Q1 (out), Q2 (out), Q3 (out), SLI (in)

## SR4CLE
designator U?
4-Bit Loadable Serial/Parallel-In Parallel-Out Shift Register with Clock Enable and Asynchronous Clear; FPGAVendor: Xilinx; Published: 15-Sep-2003; Publisher: Altium Limited
pins: C (in), CE (in), CLR (in), D0 (in), D1 (in), D2 (in), D3 (in), L (in), Q0 (out), Q1 (out), Q2 (out), Q3 (out), SLI (in)

## SR4CLED
designator U?
4-Bit Shift Register with Clock Enable and Asynchronous Clear; FPGAVendor: Xilinx; Published: 15-Sep-2003; Publisher: Altium Limited
pins: C (in), CE (in), CLR (in), D0 (in), D1 (in), D2 (in), D3 (in), L (in), LEFT (in), Q0 (out), Q1 (out), Q2 (out), Q3 (out), SLI (in), SRI (in)

## SR4RE
designator U?
4-Bit Serial-In Parallel-Out Shift Register with Clock Enable and Synchronous Reset; FPGAVendor: Xilinx; Published: 15-Sep-2003; Publisher: Altium Limited
pins: C (in), CE (in), Q0 (out), Q1 (out), Q2 (out), Q3 (out), R (in), SLI (in)

## SR4RLE
designator U?
4-Bit Loadable Serial/Parallel-In Parallel-Out Shift Register with Clock Enable and Synchronous Reset; FPGAVendor: Xilinx; Published: 15-Sep-2003; Publisher: Altium Limited
pins: C (in), CE (in), D0 (in), D1 (in), D2 (in), D3 (in), L (in), Q0 (out), Q1 (out), Q2 (out), Q3 (out), R (in), SLI (in)

## SR4RLED
designator U?
4-Bit Shift Register with Clock Enable and Synchronous Reset; FPGAVendor: Xilinx; Published: 15-Sep-2003; Publisher: Altium Limited
pins: C (in), CE (in), D0 (in), D1 (in), D2 (in), D3 (in), L (in), LEFT (in), Q0 (out), Q1 (out), Q2 (out), Q3 (out), R (in), SLI (in), SRI (in)

## SR8CE
designator U?
8-Bit Serial-In Parallel-Out Shift Register with Clock Enable and Asynchronous Clear; FPGAVendor: Xilinx; Published: 15-Sep-2003; Publisher: Altium Limited
pins: C (in), CE (in), CLR (in), Q[7..0] (out), SLI (in)

## SR8CLE
designator U?
8-Bit Loadable Serial/Parallel-In Parallel-Out Shift Register with Clock Enable and Asynchronous Clear; FPGAVendor: Xilinx; Published: 15-Sep-2003; Publisher: Altium Limited
pins: C (in), CE (in), CLR (in), D[7..0] (in), L (in), Q[7..0] (out), SLI (in)

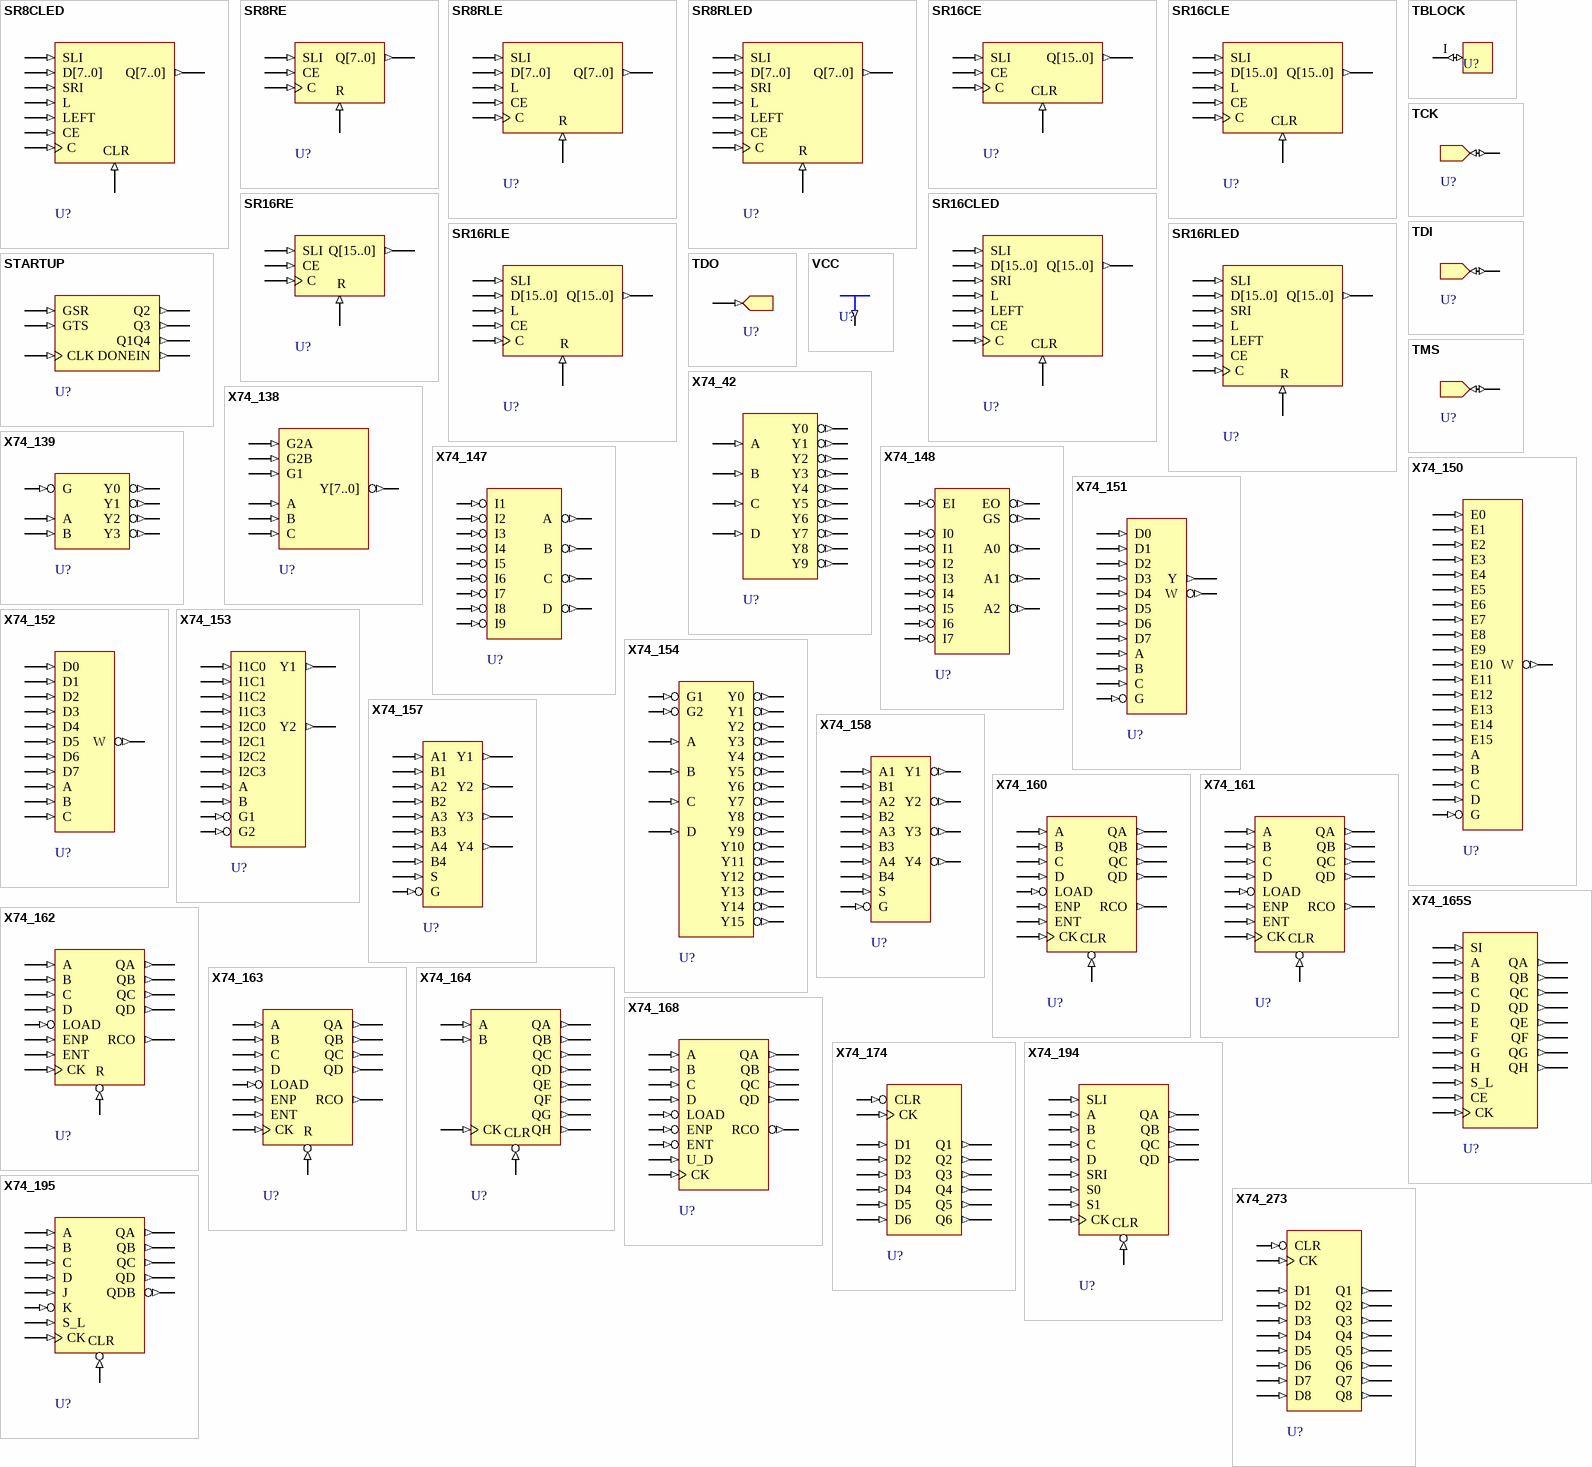
[diagram p10: symbols SR8CLED to X74_273]

## SR8CLED
designator U?
8-Bit Shift Register with Clock Enable and Asynchronous Clear; FPGAVendor: Xilinx; Published: 15-Sep-2003; Publisher: Altium Limited
pins: C (in), CE (in), CLR (in), D[7..0] (in), L (in), LEFT (in), Q[7..0] (out), SLI (in), SRI (in)

## SR8RE
designator U?
8-Bit Serial-In Parallel-Out Shift Register with Clock Enable and Synchronous Reset; FPGAVendor: Xilinx; Published: 15-Sep-2003; Publisher: Altium Limited
pins: C (in), CE (in), Q[7..0] (out), R (in), SLI (in)

## SR8RLE
designator U?
8-Bit Loadable Serial/Parallel-In Parallel-Out Shift Register with Clock Enable and Synchronous Reset; FPGAVendor: Xilinx; Published: 15-Sep-2003; Publisher: Altium Limited
pins: C (in), CE (in), D[7..0] (in), L (in), Q[7..0] (out), R (in), SLI (in)

## SR8RLED
designator U?
8-Bit Shift Register with Clock Enable and Synchronous Reset; FPGAVendor: Xilinx; Published: 15-Sep-2003; Publisher: Altium Limited
pins: C (in), CE (in), D[7..0] (in), L (in), LEFT (in), Q[7..0] (out), R (in), SLI (in), SRI (in)

## SR16CE
designator U?
16-Bit Serial-In Parallel-Out Shift Register with Clock Enable and Asynchronous Clear; FPGAVendor: Xilinx; Published: 15-Sep-2003; Publisher: Altium Limited
pins: C (in), CE (in), CLR (in), Q[15..0] (out), SLI (in)

## SR16CLE
designator U?
16-Bit Loadable Serial/Parallel-In Parallel-Out Shift Register with Clock Enable and Asynchronous Clear; FPGAVendor: Xilinx; Published: 15-Sep-2003; Publisher: Altium Limited
pins: C (in), CE (in), CLR (in), D[15..0] (in), L (in), Q[15..0] (out), SLI (in)

## SR16CLED
designator U?
16-Bit Shift Register with Clock Enable and Asynchronous Clear; FPGAVendor: Xilinx; Published: 15-Sep-2003; Publisher: Altium Limited
pins: C (in), CE (in), CLR (in), D[15..0] (in), L (in), LEFT (in), Q[15..0] (out), SLI (in), SRI (in)

## SR16RE
designator U?
16-Bit Serial-In Parallel-Out Shift Register with Clock Enable and Synchronous Reset; FPGAVendor: Xilinx; Published: 15-Sep-2003; Publisher: Altium Limited
pins: C (in), CE (in), Q[15..0] (out), R (in), SLI (in)

## SR16RLE
designator U?
16-Bit Loadable Serial/Parallel-In Parallel-Out Shift Register with Clock Enable and Synchronous Reset; FPGAVendor: Xilinx; Published: 15-Sep-2003; Publisher: Altium Limited
pins: C (in), CE (in), D[15..0] (in), L (in), Q[15..0] (out), R (in), SLI (in)

## SR16RLED
designator U?
16-Bit Shift Register with Clock Enable and Synchronous Reset; FPGAVendor: Xilinx; Published: 15-Sep-2003; Publisher: Altium Limited
pins: C (in), CE (in), D[15..0] (in), L (in), LEFT (in), Q[15..0] (out), R (in), SLI (in), SRI (in)

## STARTUP
designator U?
User Interface to Global Clock, Reset, and 3-State Controls; FPGAVendor: Xilinx; Published: 15-Sep-2003; Publisher: Altium Limited
pins: CLK (in), DONEIN (out), GSR (in), GTS (in), Q1Q4 (out), Q2 (out), Q3 (out)

## TBLOCK
designator U?
T-Block; FPGAVendor: Xilinx; Published: 15-Sep-2003; Publisher: Altium Limited
pins: I (io)

## TCK
designator U?
Boundary Scan Test Clock Input Pad; FPGAVendor: Xilinx; Published: 15-Sep-2003; Publisher: Altium Limited
pins: I (io)

## TDI
designator U?
Boundary Scan Test Data Input Pad; FPGAVendor: Xilinx; Published: 15-Sep-2003; Publisher: Altium Limited
pins: I (io)

## TDO
designator U?
Boundary Scan Data Output Pad; FPGAVendor: Xilinx; Published: 15-Sep-2003; Publisher: Altium Limited
pins: O (in)

## TMS
designator U?
Boundary Scan Test Mode Select Input Pad; FPGAVendor: Xilinx; Published: 15-Sep-2003; Publisher: Altium Limited
pins: I (io)

## VCC
designator U?
VCC-Connection Signal Tag; FPGAVendor: Xilinx; Published: 15-Sep-2003; Publisher: Altium Limited
pins: P (out)

## X74_42
designator U?
4- to 10-Line BCD-to-Decimal Decoder with Active-Low Outputs; FPGAVendor: Xilinx; Published: 15-Sep-2003; Publisher: Altium Limited
pins: A (in), B (in), C (in), D (in), Y0 (out), Y1 (out), Y2 (out), Y3 (out), Y4 (out), Y5 (out), Y6 (out), Y7 (out), Y8 (out), Y9 (out)

## X74_138
designator U?
3- to 8-Line Decoder/Demultiplexer with Active-Low Outputs and Three Enables; FPGAVendor: Xilinx; Published: 15-Sep-2003; Publisher: Altium Limited
pins: A (in), B (in), C (in), G1 (in), G2A (in), G2B (in), Y[7..0] (out)

## X74_139
designator U?
2- to 4-Line Decoder/Demultiplexer with Active-Low Outputs and Active-Low Enable; FPGAVendor: Xilinx; Published: 15-Sep-2003; Publisher: Altium Limited
pins: A (in), B (in), G (in), Y0 (out), Y1 (out), Y2 (out), Y3 (out)

## X74_147
designator U?
10- to 4-Line Priority Encoder with Active-Low Inputs and Outputs; FPGAVendor: Xilinx; Published: 15-Sep-2003; Publisher: Altium Limited
pins: A (out), B (out), C (out), D (out), I1 (in), I2 (in), I3 (in), I4 (in), I5 (in), I6 (in), I7 (in), I8 (in), I9 (in)

## X74_148
designator U?
8- to 3-Line Cascadable Priority Encoder with Active-Low Inputs and Outputs; FPGAVendor: Xilinx; Published: 15-Sep-2003; Publisher: Altium Limited
pins: A0 (out), A1 (out), A2 (out), EI (in), EO (out), GS (out), I0 (in), I1 (in), I2 (in), I3 (in), I4 (in), I5 (in), I6 (in), I7 (in)

## X74_150
designator U?
16-to-1 Multiplexer with Active-Low Enable and Output; FPGAVendor: Xilinx; Published: 15-Sep-2003; Publisher: Altium Limited
pins: A (in), B (in), C (in), D (in), E0 (in), E1 (in), E2 (in), E3 (in), E4 (in), E5 (in), E6 (in), E7 (in), E8 (in), E9 (in), E10 (in), E11 (in), E12 (in), E13 (in), E14 (in), E15 (in), G (in), W (out)

## X74_151
designator U?
8-to-1 Multiplexer with Active-Low Enable and Complementary Outputs; FPGAVendor: Xilinx; Published: 15-Sep-2003; Publisher: Altium Limited
pins: A (in), B (in), C (in), D0 (in), D1 (in), D2 (in), D3 (in), D4 (in), D5 (in), D6 (in), D7 (in), G (in), W (out), Y (out)

## X74_152
designator U?
8-to-1 Multiplexer with Active-Low Output; FPGAVendor: Xilinx; Published: 15-Sep-2003; Publisher: Altium Limited
pins: A (in), B (in), C (in), D0 (in), D1 (in), D2 (in), D3 (in), D4 (in), D5 (in), D6 (in), D7 (in), W (out)

## X74_153
designator U?
Dual 4-to-1 Multiplexer with Active-Low Enables and Common Select Input; FPGAVendor: Xilinx; Published: 15-Sep-2003; Publisher: Altium Limited
pins: A (in), B (in), G1 (in), G2 (in), I1C0 (in), I1C1 (in), I1C2 (in), I1C3 (in), I2C0 (in), I2C1 (in), I2C2 (in), I2C3 (in), Y1 (out), Y2 (out)

## X74_154
designator U?
4- to 16-Line Decoder/Demultiplexer with Two Enables and Active-Low Outputs; FPGAVendor: Xilinx; Published: 15-Sep-2003; Publisher: Altium Limited
pins: A (in), B (in), C (in), D (in), G1 (in), G2 (in), Y0 (out), Y1 (out), Y2 (out), Y3 (out), Y4 (out), Y5 (out), Y6 (out), Y7 (out), Y8 (out), Y9 (out), Y10 (out), Y11 (out), Y12 (out), Y13 (out), Y14 (out), Y15 (out)

## X74_157
designator U?
Quadruple 2-to-1 Multiplexer with Common Select and Active-Low Enable; FPGAVendor: Xilinx; Published: 15-Sep-2003; Publisher: Altium Limited
pins: A1 (in), A2 (in), A3 (in), A4 (in), B1 (in), B2 (in), B3 (in), B4 (in), G (in), S (in), Y1 (out), Y2 (out), Y3 (out), Y4 (out)

## X74_158
designator U?
Quadruple 2-to-1 Multiplexer with Common Select, Active-Low Enable, and Active-Low Outputs; FPGAVendor: Xilinx; Published: 15-Sep-2003; Publisher: Altium Limited
pins: A1 (in), A2 (in), A3 (in), A4 (in), B1 (in), B2 (in), B3 (in), B4 (in), G (in), S (in), Y1 (out), Y2 (out), Y3 (out), Y4 (out)

## X74_160
designator U?
4-Bit BCD Counter with Parallel and Trickle Enables, Active-Low Load Enable and Asynchronous Clear; FPGAVendor: Xilinx; Published: 15-Sep-2003; Publisher: Altium Limited
pins: A (in), B (in), C (in), CK (in), CLR (in), D (in), ENP (in), ENT (in), LOAD (in), QA (out), QB (out), QC (out), QD (out), RCO (out)

## X74_161
designator U?
4-Bit Binary Counter with Parallel and Trickle Enables, Active-Low Load Enable and Asynchronous Clear; FPGAVendor: Xilinx; Published: 15-Sep-2003; Publisher: Altium Limited
pins: A (in), B (in), C (in), CK (in), CLR (in), D (in), ENP (in), ENT (in), LOAD (in), QA (out), QB (out), QC (out), QD (out), RCO (out)

## X74_162
designator U?
4-Bit BCD Counter with Parallel and Trickle Enables, Active-Low Load Enable and Synchronous Reset; FPGAVendor: Xilinx; Published: 15-Sep-2003; Publisher: Altium Limited
pins: A (in), B (in), C (in), CK (in), D (in), ENP (in), ENT (in), LOAD (in), QA (out), QB (out), QC (out), QD (out), R (in), RCO (out)

## X74_163
designator U?
4-Bit Binary Counter with Parallel and Trickle Enables, Active-Low Load Enable and Synchronous Reset; FPGAVendor: Xilinx; Published: 15-Sep-2003; Publisher: Altium Limited
pins: A (in), B (in), C (in), CK (in), D (in), ENP (in), ENT (in), LOAD (in), QA (out), QB (out), QC (out), QD (out), R (in), RCO (out)

## X74_164
designator U?
8-Bit Serial-In Parallel-Out Shift Register with Active-Low Asynchronous Clear; FPGAVendor: Xilinx; Published: 15-Sep-2003; Publisher: Altium Limited
pins: A (in), B (in), CK (in), CLR (in), QA (out), QB (out), QC (out), QD (out), QE (out), QF (out), QG (out), QH (out)

## X74_165S
designator U?
8-Bit Loadable Serial/Parallel-In Parallel-Out Shift Register with Clock Enable; FPGAVendor: Xilinx; Published: 15-Sep-2003; Publisher: Altium Limited
pins: A (in), B (in), C (in), CE (in), CK (in), D (in), E (in), F (in), G (in), H (in), QA (out), QB (out), QC (out), QD (out), QE (out), QF (out), QG (out), QH (out), S_L (in), SI (in)

## X74_168
designator U?
4-Bit BCD Bidirectional Counter with Parallel and Trickle Clock Enables and Active-Low Load Enable; FPGAVendor: Xilinx; Published: 15-Sep-2003; Publisher: Altium Limited
pins: A (in), B (in), C (in), CK (in), D (in), ENP (in), ENT (in), LOAD (in), QA (out), QB (out), QC (out), QD (out), RCO (out), U_D (in)

## X74_174
designator U?
6-Bit Data Register with Active-Low Asynchronous Clear; FPGAVendor: Xilinx; Published: 15-Sep-2003; Publisher: Altium Limited
pins: CK (in), CLR (in), D1 (in), D2 (in), D3 (in), D4 (in), D5 (in), D6 (in), Q1 (out), Q2 (out), Q3 (out), Q4 (out), Q5 (out), Q6 (out)

## X74_194
designator U?
4-Bit Loadable Bidirectional Serial/Parallel-In Parallel-Out Shift Register; FPGAVendor: Xilinx; Published: 15-Sep-2003; Publisher: Altium Limited
pins: A (in), B (in), C (in), CK (in), CLR (in), D (in), QA (out), QB (out), QC (out), QD (out), S0 (in), S1 (in), SLI (in), SRI (in)

## X74_195
designator U?
4-Bit Loadable Serial/Parallel-In Parallel-Out Shift Register; FPGAVendor: Xilinx; Published: 15-Sep-2003; Publisher: Altium Limited
pins: A (in), B (in), C (in), CK (in), CLR (in), D (in), J (in), K (in), QA (out), QB (out), QC (out), QD (out), QDB (out), S_L (in)

## X74_273
designator U?
8-Bit Data Register with Active-Low Asynchronous Clear; FPGAVendor: Xilinx; Published: 15-Sep-2003; Publisher: Altium Limited
pins: CK (in), CLR (in), D1 (in), D2 (in), D3 (in), D4 (in), D5 (in), D6 (in), D7 (in), D8 (in), Q1 (out), Q2 (out), Q3 (out), Q4 (out), Q5 (out), Q6 (out), Q7 (out), Q8 (out)

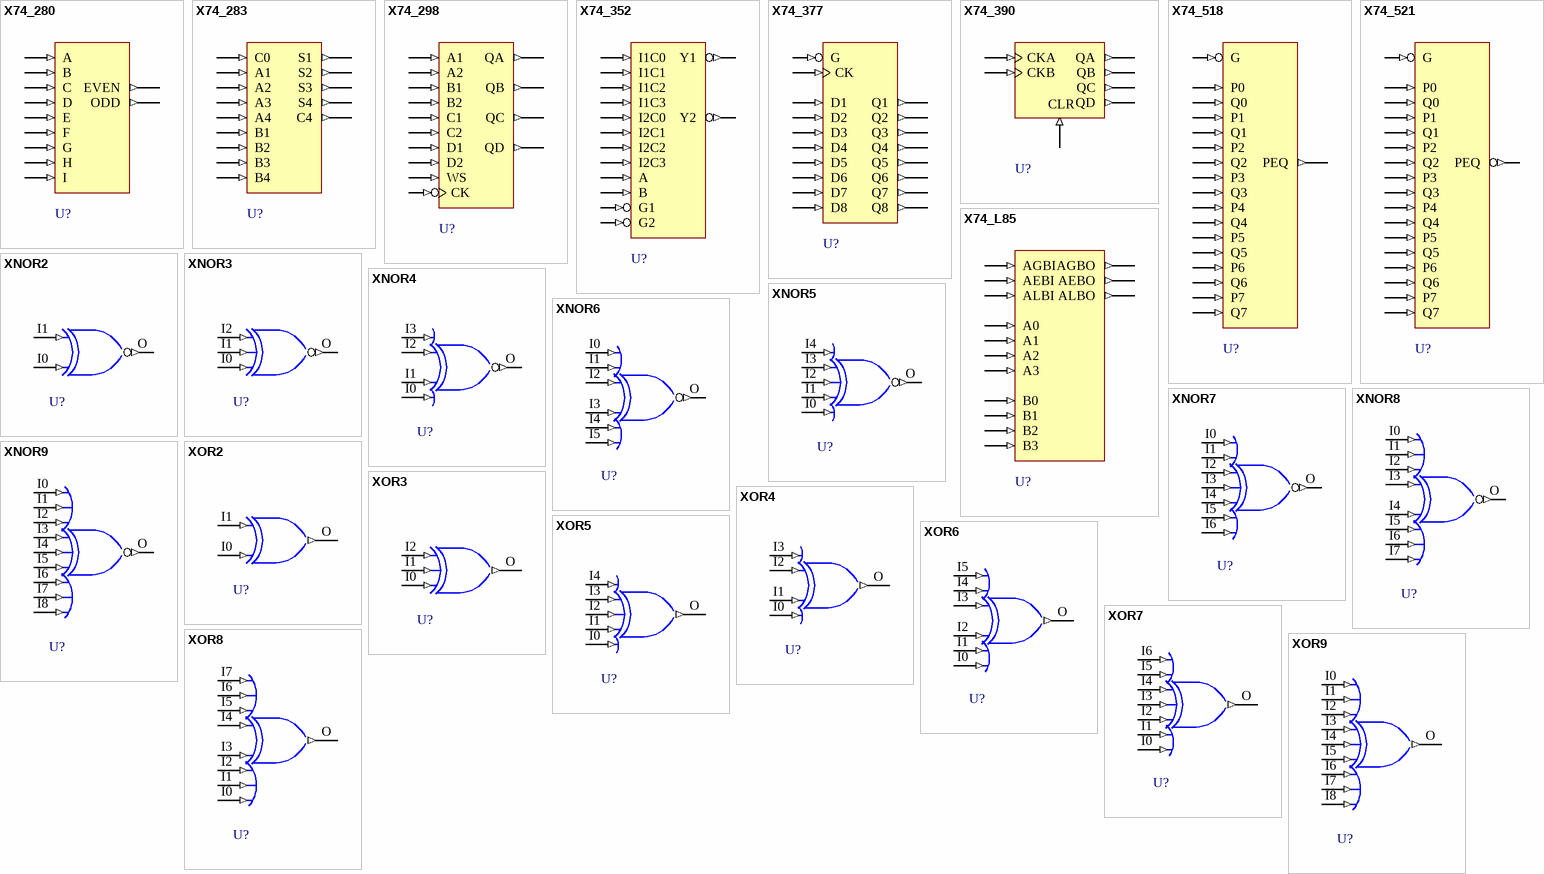
[diagram p11: symbols X74_280 to XOR9]

## X74_280
designator U?
9-Bit Odd/Even Parity Generator/Checker; FPGAVendor: Xilinx; Published: 15-Sep-2003; Publisher: Altium Limited
pins: A (in), B (in), C (in), D (in), E (in), EVEN (out), F (in), G (in), H (in), I (in), ODD (out)

## X74_283
designator U?
4-Bit Full Adder with Carry-In and Carry-Out; FPGAVendor: Xilinx; Published: 15-Sep-2003; Publisher: Altium Limited
pins: A1 (in), A2 (in), A3 (in), A4 (in), B1 (in), B2 (in), B3 (in), B4 (in), C0 (in), C4 (out), S1 (out), S2 (out), S3 (out), S4 (out)

## X74_298
designator U?
Quadruple 2-Input Multiplexer with Storage and Negative-Edge Clock; FPGAVendor: Xilinx; Published: 15-Sep-2003; Publisher: Altium Limited
pins: A1 (in), A2 (in), B1 (in), B2 (in), C1 (in), C2 (in), CK (in), D1 (in), D2 (in), QA (out), QB (out), QC (out), QD (out), WS (in)

## X74_352
designator U?
Dual 4-to-1 Multiplexer with Active-Low Enables and Outputs; FPGAVendor: Xilinx; Published: 15-Sep-2003; Publisher: Altium Limited
pins: A (in), B (in), G1 (in), G2 (in), I1C0 (in), I1C1 (in), I1C2 (in), I1C3 (in), I2C0 (in), I2C1 (in), I2C2 (in), I2C3 (in), Y1 (out), Y2 (out)

## X74_377
designator U?
8-Bit Data Register with Active-Low Clock Enable; FPGAVendor: Xilinx; Published: 15-Sep-2003; Publisher: Altium Limited
pins: CK (in), D1 (in), D2 (in), D3 (in), D4 (in), D5 (in), D6 (in), D7 (in), D8 (in), G (in), Q1 (out), Q2 (out), Q3 (out), Q4 (out), Q5 (out), Q6 (out), Q7 (out), Q8 (out)

## X74_390
designator U?
4-Bit BCD/Bi-Quinary Ripple Counter with Negative-Edge Clocks and Asynchronous Clear; FPGAVendor: Xilinx; Published: 15-Sep-2003; Publisher: Altium Limited
pins: CKA (in), CKB (in), CLR (in), QA (out), QB (out), QC (out), QD (out)

## X74_518
designator U?
8-Bit Identity Comparator with Active-Low Enable; FPGAVendor: Xilinx; Published: 15-Sep-2003; Publisher: Altium Limited
pins: G (in), P0 (in), P1 (in), P2 (in), P3 (in), P4 (in), P5 (in), P6 (in), P7 (in), PEQ (out), Q0 (in), Q1 (in), Q2 (in), Q3 (in), Q4 (in), Q5 (in), Q6 (in), Q7 (in)

## X74_521
designator U?
8-Bit Identity Comparator with Active-Low Enable and Output; FPGAVendor: Xilinx; Published: 15-Sep-2003; Publisher: Altium Limited
pins: G (in), P0 (in), P1 (in), P2 (in), P3 (in), P4 (in), P5 (in), P6 (in), P7 (in), PEQ (out), Q0 (in), Q1 (in), Q2 (in), Q3 (in), Q4 (in), Q5 (in), Q6 (in), Q7 (in)

## X74_L85
designator U?
4-Bit Expandable Magnitude Comparator; FPGAVendor: Xilinx; Published: 15-Sep-2003; Publisher: Altium Limited
pins: A0 (in), A1 (in), A2 (in), A3 (in), AEBI (in), AEBO (out), AGBI (in), AGBO (out), ALBI (in), ALBO (out), B0 (in), B1 (in), B2 (in), B3 (in)

## XNOR2
designator U?
2-Input XNOR Gate; FPGAVendor: Xilinx; Published: 15-Sep-2003; Publisher: Altium Limited
pins: I0 (in), I1 (in), O (out)

## XNOR3
designator U?
3-Input XNOR Gate; FPGAVendor: Xilinx; Published: 15-Sep-2003; Publisher: Altium Limited
pins: I0 (in), I1 (in), I2 (in), O (out)

## XNOR4
designator U?
4-Input XNOR Gate; FPGAVendor: Xilinx; Published: 15-Sep-2003; Publisher: Altium Limited
pins: I0 (in), I1 (in), I2 (in), I3 (in), O (out)

## XNOR5
designator U?
5-Input XNOR Gate; FPGAVendor: Xilinx; Published: 15-Sep-2003; Publisher: Altium Limited
pins: I0 (in), I1 (in), I2 (in), I3 (in), I4 (in), O (out)

## XNOR6
designator U?
6-Input XNOR Gate; FPGAVendor: Xilinx; Published: 15-Sep-2003; Publisher: Altium Limited
pins: I0 (in), I1 (in), I2 (in), I3 (in), I4 (in), I5 (in), O (out)

## XNOR7
designator U?
7-Input XNOR Gate; FPGAVendor: Xilinx; Published: 15-Sep-2003; Publisher: Altium Limited
pins: I0 (in), I1 (in), I2 (in), I3 (in), I4 (in), I5 (in), I6 (in), O (out)

## XNOR8
designator U?
8-Input XNOR Gate; FPGAVendor: Xilinx; Published: 15-Sep-2003; Publisher: Altium Limited
pins: I0 (in), I1 (in), I2 (in), I3 (in), I4 (in), I5 (in), I6 (in), I7 (in), O (out)

## XNOR9
designator U?
9-Input XNOR Gate; FPGAVendor: Xilinx; Published: 15-Sep-2003; Publisher: Altium Limited
pins: I0 (in), I1 (in), I2 (in), I3 (in), I4 (in), I5 (in), I6 (in), I7 (in), I8 (in), O (out)

## XOR2
designator U?
2-Input XOR Gate; FPGAVendor: Xilinx; Published: 15-Sep-2003; Publisher: Altium Limited
pins: I0 (in), I1 (in), O (out)

## XOR3
designator U?
3-Input XOR Gate; FPGAVendor: Xilinx; Published: 15-Sep-2003; Publisher: Altium Limited
pins: I0 (in), I1 (in), I2 (in), O (out)

## XOR4
designator U?
4-Input XOR Gate; FPGAVendor: Xilinx; Published: 15-Sep-2003; Publisher: Altium Limited
pins: I0 (in), I1 (in), I2 (in), I3 (in), O (out)

## XOR5
designator U?
5-Input XOR Gate; FPGAVendor: Xilinx; Published: 15-Sep-2003; Publisher: Altium Limited
pins: I0 (in), I1 (in), I2 (in), I3 (in), I4 (in), O (out)

## XOR6
designator U?
6-Input XOR Gate; FPGAVendor: Xilinx; Published: 15-Sep-2003; Publisher: Altium Limited
pins: I0 (in), I1 (in), I2 (in), I3 (in), I4 (in), I5 (in), O (out)

## XOR7
designator U?
7-Input XOR Gate; FPGAVendor: Xilinx; Published: 15-Sep-2003; Publisher: Altium Limited
pins: I0 (in), I1 (in), I2 (in), I3 (in), I4 (in), I5 (in), I6 (in), O (out)